# Altium integrated library Microchip PIC24H.IntLib: 321 symbols (part 5 of 18)
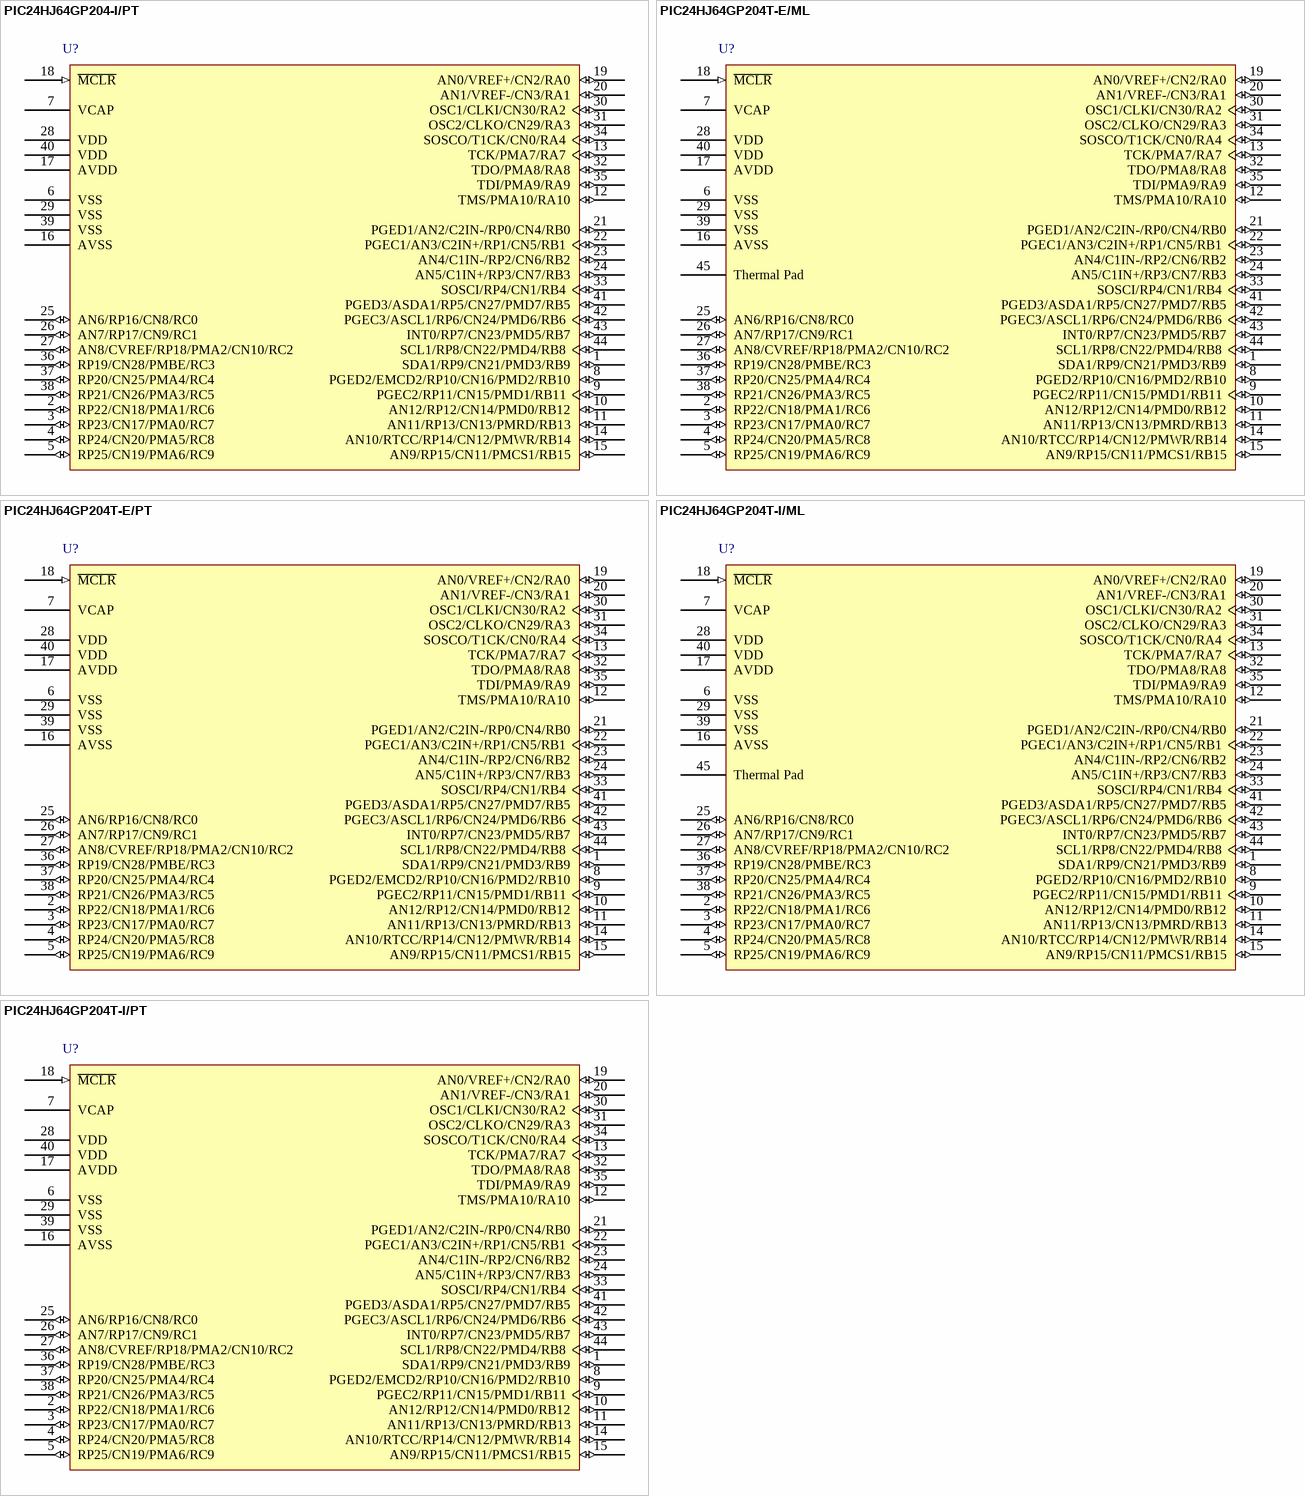
[diagram p75: symbols PIC24HJ64GP204-I/PT to PIC24HJ64GP204T-I/PT]

## PIC24HJ64GP204T-E/ML
designator U?
High Speed General Purpose 16-Bit Flash Microcontroller, 64KB Flash, 8KB RAM, 44-Pin QFN, Extended Temperature, Tape and Reel; Manufacturer: Microchip; PartNumber: PIC24HJ64GP204T-E/ML; DatasheetVersion: revF, Aug-2011; PackageVersion: revBB, Aug-2009; PackageReference: QFN-ML44; PackageDescription: 44-Lead Plastic Quad Flat, No Lead Package (ML) - 8x8 mm Body [QFN]; Mounting Technology: Surface Mount; Code_JEDEC: MO-220; Code_IPC: QFN65P800X800-44V2; ComponentLink1Description: Manufacturer URL; ComponentLink1URL: http://www.microchip.com/; ComponentLink2Description: Datasheet; ComponentLink2URL: http://ww1.microchip.com/downloads/en/DeviceDoc/70293D.pdf; ComponentLink3Description: Package Specification; ComponentLink3URL: http://www.microchip.com/stellent/groups/techpub_sg/documents/packagingspec/en012702.pdf
footprint QFN-ML44_N (QFN, 44-Leads, Body 8x8mm, Pitch 0.65mm, Thermal Pad 6.8x6.8mm, IPC Medium Density)
footprint QFN-ML44_L (QFN, 44-Leads, Body 8x8mm, Pitch 0.65mm, Thermal Pad 6.8x6.8mm, IPC High Density)
footprint QFN-ML44_M (QFN, 44-Leads, Body 8x8mm, Pitch 0.65mm, Thermal Pad 6.8x6.8mm, IPC Low Density)
pins: 1 SDA1/RP9/CN21/PMD3/RB9 (io), 2 RP22/CN18/PMA1/RC6 (io), 3 RP23/CN17/PMA0/RC7 (io), 4 RP24/CN20/PMA5/RC8 (io), 5 RP25/CN19/PMA6/RC9 (io), 6 VSS (power), 7 VCAP (power), 8 PGED2/RP10/CN16/PMD2/RB10 (io), 9 PGEC2/RP11/CN15/PMD1/RB11 (io), 10 AN12/RP12/CN14/PMD0/RB12 (io), 11 AN11/RP13/CN13/PMRD/RB13 (io), 12 TMS/PMA10/RA10 (io), 13 TCK/PMA7/RA7 (io), 14 AN10/RTCC/RP14/CN12/PMWR/RB14 (io), 15 AN9/RP15/CN11/PMCS1/RB15 (io), 16 AVSS (power), 17 AVDD (power), 18 ~{MCLR} (in), 19 AN0/VREF+/CN2/RA0 (io), 20 AN1/VREF-/CN3/RA1 (io), 21 PGED1/AN2/C2IN-/RP0/CN4/RB0 (io), 22 PGEC1/AN3/C2IN+/RP1/CN5/RB1 (io), 23 AN4/C1IN-/RP2/CN6/RB2 (io), 24 AN5/C1IN+/RP3/CN7/RB3 (io), 25 AN6/RP16/CN8/RC0 (io), 26 AN7/RP17/CN9/RC1 (io), 27 AN8/CVREF/RP18/PMA2/CN10/RC2 (io), 28 VDD (power), 29 VSS (power), 30 OSC1/CLKI/CN30/RA2 (io), 31 OSC2/CLKO/CN29/RA3 (io), 32 TDO/PMA8/RA8 (io), 33 SOSCI/RP4/CN1/RB4 (io), 34 SOSCO/T1CK/CN0/RA4 (io), 35 TDI/PMA9/RA9 (io), 36 RP19/CN28/PMBE/RC3 (io), 37 RP20/CN25/PMA4/RC4 (io), 38 RP21/CN26/PMA3/RC5 (io), 39 VSS (power), 40 VDD (power), 41 PGED3/ASDA1/RP5/CN27/PMD7/RB5 (io), 42 PGEC3/ASCL1/RP6/CN24/PMD6/RB6 (io), 43 INT0/RP7/CN23/PMD5/RB7 (io), 44 SCL1/RP8/CN22/PMD4/RB8 (io), 45 Thermal Pad

## PIC24HJ64GP204T-E/PT
designator U?
High Speed General Purpose 16-Bit Flash Microcontroller, 64KB Flash, 8KB RAM, 44-Pin TQFP, Extended Temperature, Tape and Reel; Manufacturer: Microchip; PartNumber: PIC24HJ64GP204T-E/PT; DatasheetVersion: revF, Aug-2011; PackageVersion: revBB, Aug-2009; PackageReference: TQFP-PT44; PackageDescription: 44-Lead Plastic Thin Quad Flatpack (PT) - 10x10x1mm Body, 2.00mm [TQFP]; Mounting Technology: Surface Mount; Code_JEDEC: MS-026; ComponentLink1Description: Manufacturer URL; ComponentLink1URL: http://www.microchip.com/; ComponentLink2Description: Datasheet; ComponentLink2URL: http://ww1.microchip.com/downloads/en/DeviceDoc/70293D.pdf; ComponentLink3Description: Package Specification; ComponentLink3URL: http://www.microchip.com/stellent/groups/techpub_sg/documents/packagingspec/en012702.pdf
footprint TQFP-PT44_N (Thin QFP, 44-Leads, Body 10x10mm, Pitch 0.8mm, IPC Medium Density)
footprint TQFP-PT44_L (Thin QFP, 44-Leads, Body 10x10mm, Pitch 0.8mm, IPC High Density)
footprint TQFP-PT44_M (Thin QFP, 44-Leads, Body 10x10mm, Pitch 0.8mm, IPC Low Density)
pins: 1 SDA1/RP9/CN21/PMD3/RB9 (io), 2 RP22/CN18/PMA1/RC6 (io), 3 RP23/CN17/PMA0/RC7 (io), 4 RP24/CN20/PMA5/RC8 (io), 5 RP25/CN19/PMA6/RC9 (io), 6 VSS (power), 7 VCAP (power), 8 PGED2/EMCD2/RP10/CN16/PMD2/RB10 (io), 9 PGEC2/RP11/CN15/PMD1/RB11 (io), 10 AN12/RP12/CN14/PMD0/RB12 (io), 11 AN11/RP13/CN13/PMRD/RB13 (io), 12 TMS/PMA10/RA10 (io), 13 TCK/PMA7/RA7 (io), 14 AN10/RTCC/RP14/CN12/PMWR/RB14 (io), 15 AN9/RP15/CN11/PMCS1/RB15 (io), 16 AVSS (power), 17 AVDD (power), 18 ~{MCLR} (in), 19 AN0/VREF+/CN2/RA0 (io), 20 AN1/VREF-/CN3/RA1 (io), 21 PGED1/AN2/C2IN-/RP0/CN4/RB0 (io), 22 PGEC1/AN3/C2IN+/RP1/CN5/RB1 (io), 23 AN4/C1IN-/RP2/CN6/RB2 (io), 24 AN5/C1IN+/RP3/CN7/RB3 (io), 25 AN6/RP16/CN8/RC0 (io), 26 AN7/RP17/CN9/RC1 (io), 27 AN8/CVREF/RP18/PMA2/CN10/RC2 (io), 28 VDD (power), 29 VSS (power), 30 OSC1/CLKI/CN30/RA2 (io), 31 OSC2/CLKO/CN29/RA3 (io), 32 TDO/PMA8/RA8 (io), 33 SOSCI/RP4/CN1/RB4 (io), 34 SOSCO/T1CK/CN0/RA4 (io), 35 TDI/PMA9/RA9 (io), 36 RP19/CN28/PMBE/RC3 (io), 37 RP20/CN25/PMA4/RC4 (io), 38 RP21/CN26/PMA3/RC5 (io), 39 VSS (power), 40 VDD (power), 41 PGED3/ASDA1/RP5/CN27/PMD7/RB5 (io), 42 PGEC3/ASCL1/RP6/CN24/PMD6/RB6 (io), 43 INT0/RP7/CN23/PMD5/RB7 (io), 44 SCL1/RP8/CN22/PMD4/RB8 (io)

## PIC24HJ64GP204T-I/ML
designator U?
High Speed General Purpose 16-Bit Flash Microcontroller, 64KB Flash, 8KB RAM, 44-Pin QFN, Industrial Temperature, Tape and Reel; Manufacturer: Microchip; PartNumber: PIC24HJ64GP204T-I/ML; DatasheetVersion: revF, Aug-2011; PackageVersion: revBB, Aug-2009; PackageReference: QFN-ML44; PackageDescription: 44-Lead Plastic Quad Flat, No Lead Package (ML) - 8x8 mm Body [QFN]; Supplier 1: Digi-Key; Supplier Part Number 1: PIC24HJ64GP204T-I/MLTR-ND; Supplier 2: Mouser; Supplier Part Number 2: 579-PIC2464GP204TIML; Mounting Technology: Surface Mount; Code_JEDEC: MO-220; Code_IPC: QFN65P800X800-44V2; ComponentLink1Description: Manufacturer URL; ComponentLink1URL: http://www.microchip.com/; ComponentLink2Description: Datasheet; ComponentLink2URL: http://ww1.microchip.com/downloads/en/DeviceDoc/70293D.pdf; ComponentLink3Description: Package Specification; ComponentLink3URL: http://www.microchip.com/stellent/groups/techpub_sg/documents/packagingspec/en012702.pdf
footprint QFN-ML44_N (QFN, 44-Leads, Body 8x8mm, Pitch 0.65mm, Thermal Pad 6.8x6.8mm, IPC Medium Density)
footprint QFN-ML44_L (QFN, 44-Leads, Body 8x8mm, Pitch 0.65mm, Thermal Pad 6.8x6.8mm, IPC High Density)
footprint QFN-ML44_M (QFN, 44-Leads, Body 8x8mm, Pitch 0.65mm, Thermal Pad 6.8x6.8mm, IPC Low Density)
pins: 1 SDA1/RP9/CN21/PMD3/RB9 (io), 2 RP22/CN18/PMA1/RC6 (io), 3 RP23/CN17/PMA0/RC7 (io), 4 RP24/CN20/PMA5/RC8 (io), 5 RP25/CN19/PMA6/RC9 (io), 6 VSS (power), 7 VCAP (power), 8 PGED2/RP10/CN16/PMD2/RB10 (io), 9 PGEC2/RP11/CN15/PMD1/RB11 (io), 10 AN12/RP12/CN14/PMD0/RB12 (io), 11 AN11/RP13/CN13/PMRD/RB13 (io), 12 TMS/PMA10/RA10 (io), 13 TCK/PMA7/RA7 (io), 14 AN10/RTCC/RP14/CN12/PMWR/RB14 (io), 15 AN9/RP15/CN11/PMCS1/RB15 (io), 16 AVSS (power), 17 AVDD (power), 18 ~{MCLR} (in), 19 AN0/VREF+/CN2/RA0 (io), 20 AN1/VREF-/CN3/RA1 (io), 21 PGED1/AN2/C2IN-/RP0/CN4/RB0 (io), 22 PGEC1/AN3/C2IN+/RP1/CN5/RB1 (io), 23 AN4/C1IN-/RP2/CN6/RB2 (io), 24 AN5/C1IN+/RP3/CN7/RB3 (io), 25 AN6/RP16/CN8/RC0 (io), 26 AN7/RP17/CN9/RC1 (io), 27 AN8/CVREF/RP18/PMA2/CN10/RC2 (io), 28 VDD (power), 29 VSS (power), 30 OSC1/CLKI/CN30/RA2 (io), 31 OSC2/CLKO/CN29/RA3 (io), 32 TDO/PMA8/RA8 (io), 33 SOSCI/RP4/CN1/RB4 (io), 34 SOSCO/T1CK/CN0/RA4 (io), 35 TDI/PMA9/RA9 (io), 36 RP19/CN28/PMBE/RC3 (io), 37 RP20/CN25/PMA4/RC4 (io), 38 RP21/CN26/PMA3/RC5 (io), 39 VSS (power), 40 VDD (power), 41 PGED3/ASDA1/RP5/CN27/PMD7/RB5 (io), 42 PGEC3/ASCL1/RP6/CN24/PMD6/RB6 (io), 43 INT0/RP7/CN23/PMD5/RB7 (io), 44 SCL1/RP8/CN22/PMD4/RB8 (io), 45 Thermal Pad

## PIC24HJ64GP204T-I/PT
designator U?
High Speed General Purpose 16-Bit Flash Microcontroller, 64KB Flash, 8KB RAM, 44-Pin TQFP, Industrial Temperature, Tape and Reel; Manufacturer: Microchip; PartNumber: PIC24HJ64GP204T-I/PT; DatasheetVersion: revF, Aug-2011; PackageVersion: revBB, Aug-2009; PackageReference: TQFP-PT44; PackageDescription: 44-Lead Plastic Thin Quad Flatpack (PT) - 10x10x1mm Body, 2.00mm [TQFP]; Supplier 1: Digi-Key; Supplier Part Number 1: PIC24HJ64GP204T-I/PTTR-ND; Supplier 2: Mouser; Supplier Part Number 2: 579-PIC2464GP204TIPT; Mounting Technology: Surface Mount; Code_JEDEC: MS-026; ComponentLink1Description: Manufacturer URL; ComponentLink1URL: http://www.microchip.com/; ComponentLink2Description: Datasheet; ComponentLink2URL: http://ww1.microchip.com/downloads/en/DeviceDoc/70293D.pdf; ComponentLink3Description: Package Specification; ComponentLink3URL: http://www.microchip.com/stellent/groups/techpub_sg/documents/packagingspec/en012702.pdf
footprint TQFP-PT44_N (Thin QFP, 44-Leads, Body 10x10mm, Pitch 0.8mm, IPC Medium Density)
footprint TQFP-PT44_L (Thin QFP, 44-Leads, Body 10x10mm, Pitch 0.8mm, IPC High Density)
footprint TQFP-PT44_M (Thin QFP, 44-Leads, Body 10x10mm, Pitch 0.8mm, IPC Low Density)
pins: 1 SDA1/RP9/CN21/PMD3/RB9 (io), 2 RP22/CN18/PMA1/RC6 (io), 3 RP23/CN17/PMA0/RC7 (io), 4 RP24/CN20/PMA5/RC8 (io), 5 RP25/CN19/PMA6/RC9 (io), 6 VSS (power), 7 VCAP (power), 8 PGED2/EMCD2/RP10/CN16/PMD2/RB10 (io), 9 PGEC2/RP11/CN15/PMD1/RB11 (io), 10 AN12/RP12/CN14/PMD0/RB12 (io), 11 AN11/RP13/CN13/PMRD/RB13 (io), 12 TMS/PMA10/RA10 (io), 13 TCK/PMA7/RA7 (io), 14 AN10/RTCC/RP14/CN12/PMWR/RB14 (io), 15 AN9/RP15/CN11/PMCS1/RB15 (io), 16 AVSS (power), 17 AVDD (power), 18 ~{MCLR} (in), 19 AN0/VREF+/CN2/RA0 (io), 20 AN1/VREF-/CN3/RA1 (io), 21 PGED1/AN2/C2IN-/RP0/CN4/RB0 (io), 22 PGEC1/AN3/C2IN+/RP1/CN5/RB1 (io), 23 AN4/C1IN-/RP2/CN6/RB2 (io), 24 AN5/C1IN+/RP3/CN7/RB3 (io), 25 AN6/RP16/CN8/RC0 (io), 26 AN7/RP17/CN9/RC1 (io), 27 AN8/CVREF/RP18/PMA2/CN10/RC2 (io), 28 VDD (power), 29 VSS (power), 30 OSC1/CLKI/CN30/RA2 (io), 31 OSC2/CLKO/CN29/RA3 (io), 32 TDO/PMA8/RA8 (io), 33 SOSCI/RP4/CN1/RB4 (io), 34 SOSCO/T1CK/CN0/RA4 (io), 35 TDI/PMA9/RA9 (io), 36 RP19/CN28/PMBE/RC3 (io), 37 RP20/CN25/PMA4/RC4 (io), 38 RP21/CN26/PMA3/RC5 (io), 39 VSS (power), 40 VDD (power), 41 PGED3/ASDA1/RP5/CN27/PMD7/RB5 (io), 42 PGEC3/ASCL1/RP6/CN24/PMD6/RB6 (io), 43 INT0/RP7/CN23/PMD5/RB7 (io), 44 SCL1/RP8/CN22/PMD4/RB8 (io)

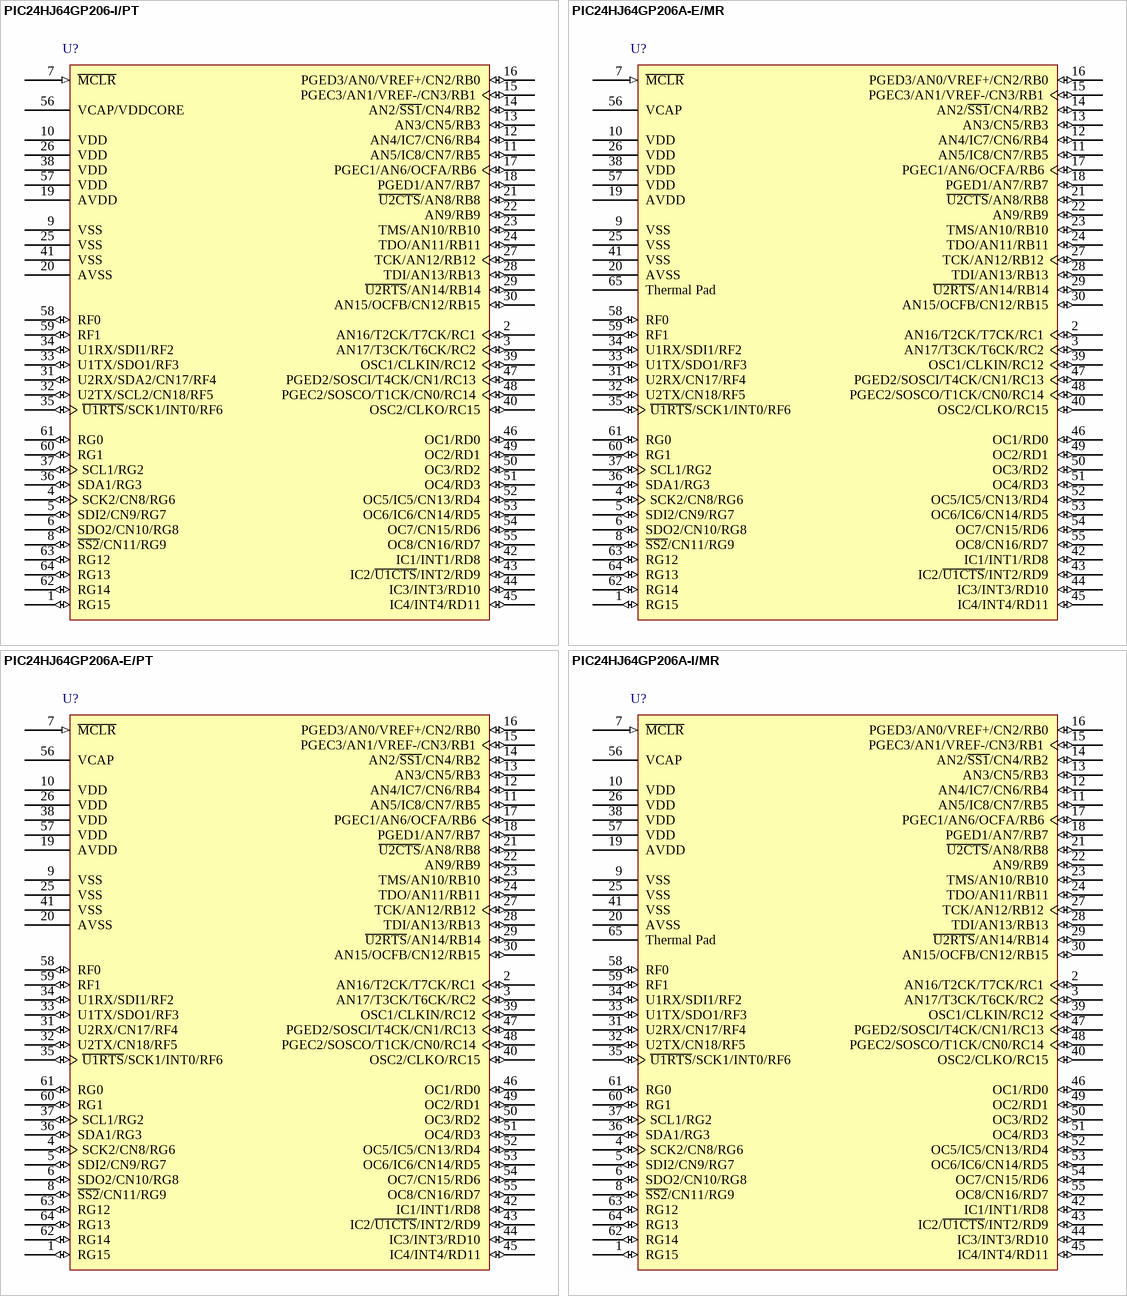
[diagram p13: symbols PIC24HJ64GP206-I/PT to PIC24HJ64GP206A-I/MR]

## PIC24HJ64GP206-I/PT
designator U?
High Speed General Purpose 16-Bit Flash Microcontroller, 64KB Flash, 8KB RAM, 64-Pin TQFP, Industrial Temperature; Manufacturer: Microchip; PartNumber: PIC24HJ64GP206-I/PT; DatasheetVersion: revH, Mar-2009; PackageVersion: revBB, Aug-2009; PackageReference: TQFP-PT64; PackageDescription: 64-Lead Thin Plastic Quad Flat Pack (PT) - 10x10x1mm Body, 2.00mm [TQFP]; Supplier 1: Digi-Key; Supplier Part Number 1: PIC24HJ64GP206-I/PT-ND; Supplier 2: Farnell; Supplier Part Number 2: 1146548MPKG; Supplier 3: Farnell; Supplier Part Number 3: 1146548; Supplier 4: Newark; Supplier Part Number 4: 56K7368; Supplier 5: Mouser; Supplier Part Number 5: 579-24HJ64GP206IPT; Mounting Technology: Surface Mount; Code_JEDEC: MS-026; ComponentLink1Description: Manufacturer URL; ComponentLink1URL: http://www.microchip.com/; ComponentLink2Description: Datasheet; ComponentLink2URL: http://ww1.microchip.com/downloads/en/DeviceDoc/70175H.pdf; ComponentLink3Description: Package Specification; ComponentLink3URL: http://www.microchip.com/stellent/groups/techpub_sg/documents/packagingspec/en012702.pdf
footprint TQFP-PT64_N (Thin QFP, 64-Leads, Body 10x10mm, Pitch 0.5mm, IPC Medium Density)
footprint TQFP-PT64_L (Thin QFP, 64-Leads, Body 10x10mm, Pitch 0.5mm, IPC High Density)
footprint TQFP-PT64_M (Thin QFP, 64-Leads, Body 10x10mm, Pitch 0.5mm, IPC Low Density)
pins: 1 RG15 (io), 2 AN16/T2CK/T7CK/RC1 (io), 3 AN17/T3CK/T6CK/RC2 (io), 4 SCK2/CN8/RG6 (io), 5 SDI2/CN9/RG7 (io), 6 SDO2/CN10/RG8 (io), 7 ~{MCLR} (in), 8 ~{SS2}/CN11/RG9 (io), 9 VSS (power), 10 VDD (power), 11 AN5/IC8/CN7/RB5 (io), 12 AN4/IC7/CN6/RB4 (io), 13 AN3/CN5/RB3 (io), 14 AN2/~{SS1}/CN4/RB2 (io), 15 PGEC3/AN1/VREF-/CN3/RB1 (io), 16 PGED3/AN0/VREF+/CN2/RB0 (io), 17 PGEC1/AN6/OCFA/RB6 (io), 18 PGED1/AN7/RB7 (io), 19 AVDD (power), 20 AVSS (power), 21 ~{U2CTS}/AN8/RB8 (io), 22 AN9/RB9 (io), 23 TMS/AN10/RB10 (io), 24 TDO/AN11/RB11 (io), 25 VSS (power), 26 VDD (power), 27 TCK/AN12/RB12 (io), 28 TDI/AN13/RB13 (io), 29 ~{U2RTS}/AN14/RB14 (io), 30 AN15/OCFB/CN12/RB15 (io), 31 U2RX/SDA2/CN17/RF4 (io), 32 U2TX/SCL2/CN18/RF5 (io), 33 U1TX/SDO1/RF3 (io), 34 U1RX/SDI1/RF2 (io), 35 ~{U1RTS}/SCK1/INT0/RF6 (io), 36 SDA1/RG3 (io), 37 SCL1/RG2 (io), 38 VDD (power), 39 OSC1/CLKIN/RC12 (io), 40 OSC2/CLKO/RC15 (io), 41 VSS (power), 42 IC1/INT1/RD8 (io), 43 IC2/~{U1CTS}/INT2/RD9 (io), 44 IC3/INT3/RD10 (io), 45 IC4/INT4/RD11 (io), 46 OC1/RD0 (io), 47 PGED2/SOSCI/T4CK/CN1/RC13 (io), 48 PGEC2/SOSCO/T1CK/CN0/RC14 (io), 49 OC2/RD1 (io), 50 OC3/RD2 (io), 51 OC4/RD3 (io), 52 OC5/IC5/CN13/RD4 (io), 53 OC6/IC6/CN14/RD5 (io), 54 OC7/CN15/RD6 (io), 55 OC8/CN16/RD7 (io), 56 VCAP/VDDCORE (power), 57 VDD (power), 58 RF0 (io), 59 RF1 (io), 60 RG1 (io), 61 RG0 (io), 62 RG14 (io), 63 RG12 (io), 64 RG13 (io)

## PIC24HJ64GP206A-E/MR
designator U?
High Speed General Purpose 16-Bit Flash Microcontroller, 64KB Flash, 8KB RAM, 64-Pin QFN, Extended Temperature; Manufacturer: Microchip; PartNumber: PIC24HJ64GP206A-E/MR; DatasheetVersion: rev C, Mar-2011; PackageVersion: revBB, Aug-2009; PackageReference: QFN-MR64; PackageDescription: 64-Lead Plastic Quad Flat, No Lead Package (MR) - 9x9x0.9 mm Body [QFN]; Supplier 1: Digi-Key; Supplier Part Number 1: PIC24HJ64GP206A-E/MR-ND; Supplier 2: Mouser; Supplier Part Number 2: 579-PIC24HJ64GP2E/MR; Mounting Technology: Surface Mount; ComponentLink1Description: Manufacturer URL; ComponentLink1URL: http://www.microchip.com/; ComponentLink2Description: Datasheet; ComponentLink2URL: http://ww1.microchip.com/downloads/en/DeviceDoc/70592B.pdf; ComponentLink3Description: Package Specification; ComponentLink3URL: http://www.microchip.com/stellent/groups/techpub_sg/documents/packagingspec/en012702.pdf
footprint QFN-MR64_N (QFN, 64-Leads, Body 9x9mm, Pitch 0.5mm, Thermal Pad 7.5x7.5mm, IPC Medium Density)
footprint QFN-MR64_L (QFN, 64-Leads, Body 9x9mm, Pitch 0.5mm, Thermal Pad 7.5x7.5mm, IPC High Density)
footprint QFN-MR64_M (QFN, 64-Leads, Body 9x9mm, Pitch 0.5mm, Thermal Pad 7.5x7.5mm, IPC Low Density)
pins: 1 RG15 (io), 2 AN16/T2CK/T7CK/RC1 (io), 3 AN17/T3CK/T6CK/RC2 (io), 4 SCK2/CN8/RG6 (io), 5 SDI2/CN9/RG7 (io), 6 SDO2/CN10/RG8 (io), 7 ~{MCLR} (in), 8 ~{SS2}/CN11/RG9 (io), 9 VSS (power), 10 VDD (power), 11 AN5/IC8/CN7/RB5 (io), 12 AN4/IC7/CN6/RB4 (io), 13 AN3/CN5/RB3 (io), 14 AN2/~{SS1}/CN4/RB2 (io), 15 PGEC3/AN1/VREF-/CN3/RB1 (io), 16 PGED3/AN0/VREF+/CN2/RB0 (io), 17 PGEC1/AN6/OCFA/RB6 (io), 18 PGED1/AN7/RB7 (io), 19 AVDD (power), 20 AVSS (power), 21 ~{U2CTS}/AN8/RB8 (io), 22 AN9/RB9 (io), 23 TMS/AN10/RB10 (io), 24 TDO/AN11/RB11 (io), 25 VSS (power), 26 VDD (power), 27 TCK/AN12/RB12 (io), 28 TDI/AN13/RB13 (io), 29 ~{U2RTS}/AN14/RB14 (io), 30 AN15/OCFB/CN12/RB15 (io), 31 U2RX/CN17/RF4 (io), 32 U2TX/CN18/RF5 (io), 33 U1TX/SDO1/RF3 (io), 34 U1RX/SDI1/RF2 (io), 35 ~{U1RTS}/SCK1/INT0/RF6 (io), 36 SDA1/RG3 (io), 37 SCL1/RG2 (io), 38 VDD (power), 39 OSC1/CLKIN/RC12 (io), 40 OSC2/CLKO/RC15 (io), 41 VSS (power), 42 IC1/INT1/RD8 (io), 43 IC2/~{U1CTS}/INT2/RD9 (io), 44 IC3/INT3/RD10 (io), 45 IC4/INT4/RD11 (io), 46 OC1/RD0 (io), 47 PGED2/SOSCI/T4CK/CN1/RC13 (io), 48 PGEC2/SOSCO/T1CK/CN0/RC14 (io), 49 OC2/RD1 (io), 50 OC3/RD2 (io), 51 OC4/RD3 (io), 52 OC5/IC5/CN13/RD4 (io), 53 OC6/IC6/CN14/RD5 (io), 54 OC7/CN15/RD6 (io), 55 OC8/CN16/RD7 (io), 56 VCAP (power), 57 VDD (power), 58 RF0 (io), 59 RF1 (io), 60 RG1 (io), 61 RG0 (io), 62 RG14 (io), 63 RG12 (io), 64 RG13 (io), 65 Thermal Pad

## PIC24HJ64GP206A-E/PT
designator U?
High Speed General Purpose 16-Bit Flash Microcontroller, 64KB Flash, 8KB RAM, 64-Pin TQFP, Extended Temperature; Manufacturer: Microchip; PartNumber: PIC24HJ64GP206A-E/PT; DatasheetVersion: rev C, Mar-2011; PackageVersion: revBB, Aug-2009; PackageReference: TQFP-PT64; PackageDescription: 64-Lead Thin Plastic Quad Flat Pack (PT) - 10x10x1mm Body, 2.00mm [TQFP]; Supplier 1: Digi-Key; Supplier Part Number 1: PIC24HJ64GP206A-E/PT-ND; Supplier 2: Mouser; Supplier Part Number 2: 579-HJ64GP206A-E/PT; Mounting Technology: Surface Mount; Code_JEDEC: MS-026; ComponentLink1Description: Manufacturer URL; ComponentLink1URL: http://www.microchip.com/; ComponentLink2Description: Datasheet; ComponentLink2URL: http://ww1.microchip.com/downloads/en/DeviceDoc/70592B.pdf; ComponentLink3Description: Package Specification; ComponentLink3URL: http://www.microchip.com/stellent/groups/techpub_sg/documents/packagingspec/en012702.pdf
footprint TQFP-PT64_N (Thin QFP, 64-Leads, Body 10x10mm, Pitch 0.5mm, IPC Medium Density)
footprint TQFP-PT64_L (Thin QFP, 64-Leads, Body 10x10mm, Pitch 0.5mm, IPC High Density)
footprint TQFP-PT64_M (Thin QFP, 64-Leads, Body 10x10mm, Pitch 0.5mm, IPC Low Density)
pins: 1 RG15 (io), 2 AN16/T2CK/T7CK/RC1 (io), 3 AN17/T3CK/T6CK/RC2 (io), 4 SCK2/CN8/RG6 (io), 5 SDI2/CN9/RG7 (io), 6 SDO2/CN10/RG8 (io), 7 ~{MCLR} (in), 8 ~{SS2}/CN11/RG9 (io), 9 VSS (power), 10 VDD (power), 11 AN5/IC8/CN7/RB5 (io), 12 AN4/IC7/CN6/RB4 (io), 13 AN3/CN5/RB3 (io), 14 AN2/~{SS1}/CN4/RB2 (io), 15 PGEC3/AN1/VREF-/CN3/RB1 (io), 16 PGED3/AN0/VREF+/CN2/RB0 (io), 17 PGEC1/AN6/OCFA/RB6 (io), 18 PGED1/AN7/RB7 (io), 19 AVDD (power), 20 AVSS (power), 21 ~{U2CTS}/AN8/RB8 (io), 22 AN9/RB9 (io), 23 TMS/AN10/RB10 (io), 24 TDO/AN11/RB11 (io), 25 VSS (power), 26 VDD (power), 27 TCK/AN12/RB12 (io), 28 TDI/AN13/RB13 (io), 29 ~{U2RTS}/AN14/RB14 (io), 30 AN15/OCFB/CN12/RB15 (io), 31 U2RX/CN17/RF4 (io), 32 U2TX/CN18/RF5 (io), 33 U1TX/SDO1/RF3 (io), 34 U1RX/SDI1/RF2 (io), 35 ~{U1RTS}/SCK1/INT0/RF6 (io), 36 SDA1/RG3 (io), 37 SCL1/RG2 (io), 38 VDD (power), 39 OSC1/CLKIN/RC12 (io), 40 OSC2/CLKO/RC15 (io), 41 VSS (power), 42 IC1/INT1/RD8 (io), 43 IC2/~{U1CTS}/INT2/RD9 (io), 44 IC3/INT3/RD10 (io), 45 IC4/INT4/RD11 (io), 46 OC1/RD0 (io), 47 PGED2/SOSCI/T4CK/CN1/RC13 (io), 48 PGEC2/SOSCO/T1CK/CN0/RC14 (io), 49 OC2/RD1 (io), 50 OC3/RD2 (io), 51 OC4/RD3 (io), 52 OC5/IC5/CN13/RD4 (io), 53 OC6/IC6/CN14/RD5 (io), 54 OC7/CN15/RD6 (io), 55 OC8/CN16/RD7 (io), 56 VCAP (power), 57 VDD (power), 58 RF0 (io), 59 RF1 (io), 60 RG1 (io), 61 RG0 (io), 62 RG14 (io), 63 RG12 (io), 64 RG13 (io)

## PIC24HJ64GP206A-I/MR
designator U?
High Speed General Purpose 16-Bit Flash Microcontroller, 64KB Flash, 8KB RAM, 64-Pin QFN, Industrial Temperature; Manufacturer: Microchip; PartNumber: PIC24HJ64GP206A-I/MR; DatasheetVersion: rev C, Mar-2011; PackageVersion: revBB, Aug-2009; PackageReference: QFN-MR64; PackageDescription: 64-Lead Plastic Quad Flat, No Lead Package (MR) - 9x9x0.9 mm Body [QFN]; Supplier 1: Digi-Key; Supplier Part Number 1: PIC24HJ64GP206A-I/MR-ND; Supplier 2: Mouser; Supplier Part Number 2: 579-PIC24HJ64GP2I/MR; Mounting Technology: Surface Mount; ComponentLink1Description: Manufacturer URL; ComponentLink1URL: http://www.microchip.com/; ComponentLink2Description: Datasheet; ComponentLink2URL: http://ww1.microchip.com/downloads/en/DeviceDoc/70592B.pdf; ComponentLink3Description: Package Specification; ComponentLink3URL: http://www.microchip.com/stellent/groups/techpub_sg/documents/packagingspec/en012702.pdf
footprint QFN-MR64_N (QFN, 64-Leads, Body 9x9mm, Pitch 0.5mm, Thermal Pad 7.5x7.5mm, IPC Medium Density)
footprint QFN-MR64_L (QFN, 64-Leads, Body 9x9mm, Pitch 0.5mm, Thermal Pad 7.5x7.5mm, IPC High Density)
footprint QFN-MR64_M (QFN, 64-Leads, Body 9x9mm, Pitch 0.5mm, Thermal Pad 7.5x7.5mm, IPC Low Density)
pins: 1 RG15 (io), 2 AN16/T2CK/T7CK/RC1 (io), 3 AN17/T3CK/T6CK/RC2 (io), 4 SCK2/CN8/RG6 (io), 5 SDI2/CN9/RG7 (io), 6 SDO2/CN10/RG8 (io), 7 ~{MCLR} (in), 8 ~{SS2}/CN11/RG9 (io), 9 VSS (power), 10 VDD (power), 11 AN5/IC8/CN7/RB5 (io), 12 AN4/IC7/CN6/RB4 (io), 13 AN3/CN5/RB3 (io), 14 AN2/~{SS1}/CN4/RB2 (io), 15 PGEC3/AN1/VREF-/CN3/RB1 (io), 16 PGED3/AN0/VREF+/CN2/RB0 (io), 17 PGEC1/AN6/OCFA/RB6 (io), 18 PGED1/AN7/RB7 (io), 19 AVDD (power), 20 AVSS (power), 21 ~{U2CTS}/AN8/RB8 (io), 22 AN9/RB9 (io), 23 TMS/AN10/RB10 (io), 24 TDO/AN11/RB11 (io), 25 VSS (power), 26 VDD (power), 27 TCK/AN12/RB12 (io), 28 TDI/AN13/RB13 (io), 29 ~{U2RTS}/AN14/RB14 (io), 30 AN15/OCFB/CN12/RB15 (io), 31 U2RX/CN17/RF4 (io), 32 U2TX/CN18/RF5 (io), 33 U1TX/SDO1/RF3 (io), 34 U1RX/SDI1/RF2 (io), 35 ~{U1RTS}/SCK1/INT0/RF6 (io), 36 SDA1/RG3 (io), 37 SCL1/RG2 (io), 38 VDD (power), 39 OSC1/CLKIN/RC12 (io), 40 OSC2/CLKO/RC15 (io), 41 VSS (power), 42 IC1/INT1/RD8 (io), 43 IC2/~{U1CTS}/INT2/RD9 (io), 44 IC3/INT3/RD10 (io), 45 IC4/INT4/RD11 (io), 46 OC1/RD0 (io), 47 PGED2/SOSCI/T4CK/CN1/RC13 (io), 48 PGEC2/SOSCO/T1CK/CN0/RC14 (io), 49 OC2/RD1 (io), 50 OC3/RD2 (io), 51 OC4/RD3 (io), 52 OC5/IC5/CN13/RD4 (io), 53 OC6/IC6/CN14/RD5 (io), 54 OC7/CN15/RD6 (io), 55 OC8/CN16/RD7 (io), 56 VCAP (power), 57 VDD (power), 58 RF0 (io), 59 RF1 (io), 60 RG1 (io), 61 RG0 (io), 62 RG14 (io), 63 RG12 (io), 64 RG13 (io), 65 Thermal Pad

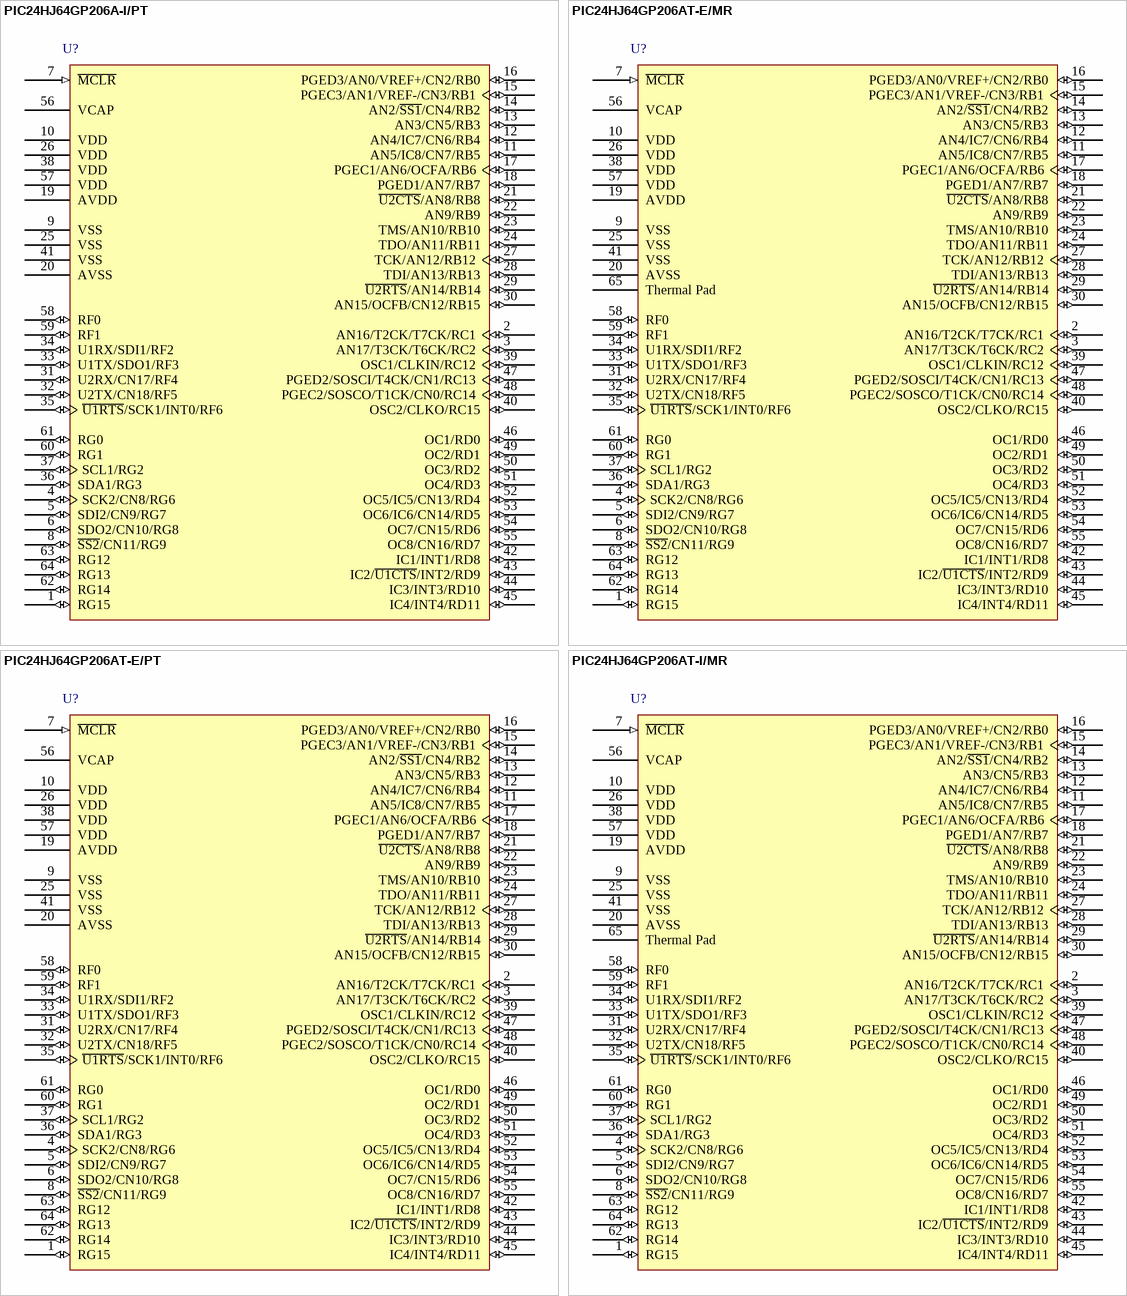
[diagram p14: symbols PIC24HJ64GP206A-I/PT to PIC24HJ64GP206AT-I/MR]

## PIC24HJ64GP206A-I/PT
designator U?
High Speed General Purpose 16-Bit Flash Microcontroller, 64KB Flash, 8KB RAM, 64-Pin TQFP, Industrial Temperature; Manufacturer: Microchip; PartNumber: PIC24HJ64GP206A-I/PT; DatasheetVersion: rev C, Mar-2011; PackageVersion: revBB, Aug-2009; PackageReference: TQFP-PT64; PackageDescription: 64-Lead Thin Plastic Quad Flat Pack (PT) - 10x10x1mm Body, 2.00mm [TQFP]; Supplier 1: Digi-Key; Supplier Part Number 1: PIC24HJ64GP206A-I/PT-ND; Supplier 2: Newark; Supplier Part Number 2: 45P4873; Supplier 3: Mouser; Supplier Part Number 3: 579-PIC24HJ64206AIPT; Mounting Technology: Surface Mount; Code_JEDEC: MS-026; ComponentLink1Description: Manufacturer URL; ComponentLink1URL: http://www.microchip.com/; ComponentLink2Description: Datasheet; ComponentLink2URL: http://ww1.microchip.com/downloads/en/DeviceDoc/70592B.pdf; ComponentLink3Description: Package Specification; ComponentLink3URL: http://www.microchip.com/stellent/groups/techpub_sg/documents/packagingspec/en012702.pdf
footprint TQFP-PT64_N (Thin QFP, 64-Leads, Body 10x10mm, Pitch 0.5mm, IPC Medium Density)
footprint TQFP-PT64_L (Thin QFP, 64-Leads, Body 10x10mm, Pitch 0.5mm, IPC High Density)
footprint TQFP-PT64_M (Thin QFP, 64-Leads, Body 10x10mm, Pitch 0.5mm, IPC Low Density)
pins: 1 RG15 (io), 2 AN16/T2CK/T7CK/RC1 (io), 3 AN17/T3CK/T6CK/RC2 (io), 4 SCK2/CN8/RG6 (io), 5 SDI2/CN9/RG7 (io), 6 SDO2/CN10/RG8 (io), 7 ~{MCLR} (in), 8 ~{SS2}/CN11/RG9 (io), 9 VSS (power), 10 VDD (power), 11 AN5/IC8/CN7/RB5 (io), 12 AN4/IC7/CN6/RB4 (io), 13 AN3/CN5/RB3 (io), 14 AN2/~{SS1}/CN4/RB2 (io), 15 PGEC3/AN1/VREF-/CN3/RB1 (io), 16 PGED3/AN0/VREF+/CN2/RB0 (io), 17 PGEC1/AN6/OCFA/RB6 (io), 18 PGED1/AN7/RB7 (io), 19 AVDD (power), 20 AVSS (power), 21 ~{U2CTS}/AN8/RB8 (io), 22 AN9/RB9 (io), 23 TMS/AN10/RB10 (io), 24 TDO/AN11/RB11 (io), 25 VSS (power), 26 VDD (power), 27 TCK/AN12/RB12 (io), 28 TDI/AN13/RB13 (io), 29 ~{U2RTS}/AN14/RB14 (io), 30 AN15/OCFB/CN12/RB15 (io), 31 U2RX/CN17/RF4 (io), 32 U2TX/CN18/RF5 (io), 33 U1TX/SDO1/RF3 (io), 34 U1RX/SDI1/RF2 (io), 35 ~{U1RTS}/SCK1/INT0/RF6 (io), 36 SDA1/RG3 (io), 37 SCL1/RG2 (io), 38 VDD (power), 39 OSC1/CLKIN/RC12 (io), 40 OSC2/CLKO/RC15 (io), 41 VSS (power), 42 IC1/INT1/RD8 (io), 43 IC2/~{U1CTS}/INT2/RD9 (io), 44 IC3/INT3/RD10 (io), 45 IC4/INT4/RD11 (io), 46 OC1/RD0 (io), 47 PGED2/SOSCI/T4CK/CN1/RC13 (io), 48 PGEC2/SOSCO/T1CK/CN0/RC14 (io), 49 OC2/RD1 (io), 50 OC3/RD2 (io), 51 OC4/RD3 (io), 52 OC5/IC5/CN13/RD4 (io), 53 OC6/IC6/CN14/RD5 (io), 54 OC7/CN15/RD6 (io), 55 OC8/CN16/RD7 (io), 56 VCAP (power), 57 VDD (power), 58 RF0 (io), 59 RF1 (io), 60 RG1 (io), 61 RG0 (io), 62 RG14 (io), 63 RG12 (io), 64 RG13 (io)

## PIC24HJ64GP206AT-E/MR
designator U?
High Speed General Purpose 16-Bit Flash Microcontroller, 64KB Flash, 8KB RAM, 64-Pin QFN, Extended Temperature, Tape and Reel; Manufacturer: Microchip; PartNumber: PIC24HJ64GP206AT-E/MR; DatasheetVersion: rev C, Mar-2011; PackageVersion: revBB, Aug-2009; PackageReference: QFN-MR64; PackageDescription: 64-Lead Plastic Quad Flat, No Lead Package (MR) - 9x9x0.9 mm Body [QFN]; Mounting Technology: Surface Mount; ComponentLink1Description: Manufacturer URL; ComponentLink1URL: http://www.microchip.com/; ComponentLink2Description: Datasheet; ComponentLink2URL: http://ww1.microchip.com/downloads/en/DeviceDoc/70592B.pdf; ComponentLink3Description: Package Specification; ComponentLink3URL: http://www.microchip.com/stellent/groups/techpub_sg/documents/packagingspec/en012702.pdf
footprint QFN-MR64_N (QFN, 64-Leads, Body 9x9mm, Pitch 0.5mm, Thermal Pad 7.5x7.5mm, IPC Medium Density)
footprint QFN-MR64_L (QFN, 64-Leads, Body 9x9mm, Pitch 0.5mm, Thermal Pad 7.5x7.5mm, IPC High Density)
footprint QFN-MR64_M (QFN, 64-Leads, Body 9x9mm, Pitch 0.5mm, Thermal Pad 7.5x7.5mm, IPC Low Density)
pins: 1 RG15 (io), 2 AN16/T2CK/T7CK/RC1 (io), 3 AN17/T3CK/T6CK/RC2 (io), 4 SCK2/CN8/RG6 (io), 5 SDI2/CN9/RG7 (io), 6 SDO2/CN10/RG8 (io), 7 ~{MCLR} (in), 8 ~{SS2}/CN11/RG9 (io), 9 VSS (power), 10 VDD (power), 11 AN5/IC8/CN7/RB5 (io), 12 AN4/IC7/CN6/RB4 (io), 13 AN3/CN5/RB3 (io), 14 AN2/~{SS1}/CN4/RB2 (io), 15 PGEC3/AN1/VREF-/CN3/RB1 (io), 16 PGED3/AN0/VREF+/CN2/RB0 (io), 17 PGEC1/AN6/OCFA/RB6 (io), 18 PGED1/AN7/RB7 (io), 19 AVDD (power), 20 AVSS (power), 21 ~{U2CTS}/AN8/RB8 (io), 22 AN9/RB9 (io), 23 TMS/AN10/RB10 (io), 24 TDO/AN11/RB11 (io), 25 VSS (power), 26 VDD (power), 27 TCK/AN12/RB12 (io), 28 TDI/AN13/RB13 (io), 29 ~{U2RTS}/AN14/RB14 (io), 30 AN15/OCFB/CN12/RB15 (io), 31 U2RX/CN17/RF4 (io), 32 U2TX/CN18/RF5 (io), 33 U1TX/SDO1/RF3 (io), 34 U1RX/SDI1/RF2 (io), 35 ~{U1RTS}/SCK1/INT0/RF6 (io), 36 SDA1/RG3 (io), 37 SCL1/RG2 (io), 38 VDD (power), 39 OSC1/CLKIN/RC12 (io), 40 OSC2/CLKO/RC15 (io), 41 VSS (power), 42 IC1/INT1/RD8 (io), 43 IC2/~{U1CTS}/INT2/RD9 (io), 44 IC3/INT3/RD10 (io), 45 IC4/INT4/RD11 (io), 46 OC1/RD0 (io), 47 PGED2/SOSCI/T4CK/CN1/RC13 (io), 48 PGEC2/SOSCO/T1CK/CN0/RC14 (io), 49 OC2/RD1 (io), 50 OC3/RD2 (io), 51 OC4/RD3 (io), 52 OC5/IC5/CN13/RD4 (io), 53 OC6/IC6/CN14/RD5 (io), 54 OC7/CN15/RD6 (io), 55 OC8/CN16/RD7 (io), 56 VCAP (power), 57 VDD (power), 58 RF0 (io), 59 RF1 (io), 60 RG1 (io), 61 RG0 (io), 62 RG14 (io), 63 RG12 (io), 64 RG13 (io), 65 Thermal Pad

## PIC24HJ64GP206AT-E/PT
designator U?
High Speed General Purpose 16-Bit Flash Microcontroller, 64KB Flash, 8KB RAM, 64-Pin TQFP, Extended Temperature, Tape and Reel; Manufacturer: Microchip; PartNumber: PIC24HJ64GP206AT-E/PT; DatasheetVersion: rev C, Mar-2011; PackageVersion: revBB, Aug-2009; PackageReference: TQFP-PT64; PackageDescription: 64-Lead Thin Plastic Quad Flat Pack (PT) - 10x10x1mm Body, 2.00mm [TQFP]; Mounting Technology: Surface Mount; Code_JEDEC: MS-026; ComponentLink1Description: Manufacturer URL; ComponentLink1URL: http://www.microchip.com/; ComponentLink2Description: Datasheet; ComponentLink2URL: http://ww1.microchip.com/downloads/en/DeviceDoc/70592B.pdf; ComponentLink3Description: Package Specification; ComponentLink3URL: http://www.microchip.com/stellent/groups/techpub_sg/documents/packagingspec/en012702.pdf
footprint TQFP-PT64_N (Thin QFP, 64-Leads, Body 10x10mm, Pitch 0.5mm, IPC Medium Density)
footprint TQFP-PT64_L (Thin QFP, 64-Leads, Body 10x10mm, Pitch 0.5mm, IPC High Density)
footprint TQFP-PT64_M (Thin QFP, 64-Leads, Body 10x10mm, Pitch 0.5mm, IPC Low Density)
pins: 1 RG15 (io), 2 AN16/T2CK/T7CK/RC1 (io), 3 AN17/T3CK/T6CK/RC2 (io), 4 SCK2/CN8/RG6 (io), 5 SDI2/CN9/RG7 (io), 6 SDO2/CN10/RG8 (io), 7 ~{MCLR} (in), 8 ~{SS2}/CN11/RG9 (io), 9 VSS (power), 10 VDD (power), 11 AN5/IC8/CN7/RB5 (io), 12 AN4/IC7/CN6/RB4 (io), 13 AN3/CN5/RB3 (io), 14 AN2/~{SS1}/CN4/RB2 (io), 15 PGEC3/AN1/VREF-/CN3/RB1 (io), 16 PGED3/AN0/VREF+/CN2/RB0 (io), 17 PGEC1/AN6/OCFA/RB6 (io), 18 PGED1/AN7/RB7 (io), 19 AVDD (power), 20 AVSS (power), 21 ~{U2CTS}/AN8/RB8 (io), 22 AN9/RB9 (io), 23 TMS/AN10/RB10 (io), 24 TDO/AN11/RB11 (io), 25 VSS (power), 26 VDD (power), 27 TCK/AN12/RB12 (io), 28 TDI/AN13/RB13 (io), 29 ~{U2RTS}/AN14/RB14 (io), 30 AN15/OCFB/CN12/RB15 (io), 31 U2RX/CN17/RF4 (io), 32 U2TX/CN18/RF5 (io), 33 U1TX/SDO1/RF3 (io), 34 U1RX/SDI1/RF2 (io), 35 ~{U1RTS}/SCK1/INT0/RF6 (io), 36 SDA1/RG3 (io), 37 SCL1/RG2 (io), 38 VDD (power), 39 OSC1/CLKIN/RC12 (io), 40 OSC2/CLKO/RC15 (io), 41 VSS (power), 42 IC1/INT1/RD8 (io), 43 IC2/~{U1CTS}/INT2/RD9 (io), 44 IC3/INT3/RD10 (io), 45 IC4/INT4/RD11 (io), 46 OC1/RD0 (io), 47 PGED2/SOSCI/T4CK/CN1/RC13 (io), 48 PGEC2/SOSCO/T1CK/CN0/RC14 (io), 49 OC2/RD1 (io), 50 OC3/RD2 (io), 51 OC4/RD3 (io), 52 OC5/IC5/CN13/RD4 (io), 53 OC6/IC6/CN14/RD5 (io), 54 OC7/CN15/RD6 (io), 55 OC8/CN16/RD7 (io), 56 VCAP (power), 57 VDD (power), 58 RF0 (io), 59 RF1 (io), 60 RG1 (io), 61 RG0 (io), 62 RG14 (io), 63 RG12 (io), 64 RG13 (io)

## PIC24HJ64GP206AT-I/MR
designator U?
High Speed General Purpose 16-Bit Flash Microcontroller, 64KB Flash, 8KB RAM, 64-Pin QFN, Industrial Temperature, Tape and Reel; Manufacturer: Microchip; PartNumber: PIC24HJ64GP206AT-I/MR; DatasheetVersion: rev C, Mar-2011; PackageVersion: revBB, Aug-2009; PackageReference: QFN-MR64; PackageDescription: 64-Lead Plastic Quad Flat, No Lead Package (MR) - 9x9x0.9 mm Body [QFN]; Supplier 1: Digi-Key; Supplier Part Number 1: PIC24HJ64GP206AT-I/MR-ND; Supplier 2: Mouser; Supplier Part Number 2: 579-PIC24HJ64GP2TIMR; Mounting Technology: Surface Mount; ComponentLink1Description: Manufacturer URL; ComponentLink1URL: http://www.microchip.com/; ComponentLink2Description: Datasheet; ComponentLink2URL: http://ww1.microchip.com/downloads/en/DeviceDoc/70592B.pdf; ComponentLink3Description: Package Specification; ComponentLink3URL: http://www.microchip.com/stellent/groups/techpub_sg/documents/packagingspec/en012702.pdf
footprint QFN-MR64_N (QFN, 64-Leads, Body 9x9mm, Pitch 0.5mm, Thermal Pad 7.5x7.5mm, IPC Medium Density)
footprint QFN-MR64_L (QFN, 64-Leads, Body 9x9mm, Pitch 0.5mm, Thermal Pad 7.5x7.5mm, IPC High Density)
footprint QFN-MR64_M (QFN, 64-Leads, Body 9x9mm, Pitch 0.5mm, Thermal Pad 7.5x7.5mm, IPC Low Density)
pins: 1 RG15 (io), 2 AN16/T2CK/T7CK/RC1 (io), 3 AN17/T3CK/T6CK/RC2 (io), 4 SCK2/CN8/RG6 (io), 5 SDI2/CN9/RG7 (io), 6 SDO2/CN10/RG8 (io), 7 ~{MCLR} (in), 8 ~{SS2}/CN11/RG9 (io), 9 VSS (power), 10 VDD (power), 11 AN5/IC8/CN7/RB5 (io), 12 AN4/IC7/CN6/RB4 (io), 13 AN3/CN5/RB3 (io), 14 AN2/~{SS1}/CN4/RB2 (io), 15 PGEC3/AN1/VREF-/CN3/RB1 (io), 16 PGED3/AN0/VREF+/CN2/RB0 (io), 17 PGEC1/AN6/OCFA/RB6 (io), 18 PGED1/AN7/RB7 (io), 19 AVDD (power), 20 AVSS (power), 21 ~{U2CTS}/AN8/RB8 (io), 22 AN9/RB9 (io), 23 TMS/AN10/RB10 (io), 24 TDO/AN11/RB11 (io), 25 VSS (power), 26 VDD (power), 27 TCK/AN12/RB12 (io), 28 TDI/AN13/RB13 (io), 29 ~{U2RTS}/AN14/RB14 (io), 30 AN15/OCFB/CN12/RB15 (io), 31 U2RX/CN17/RF4 (io), 32 U2TX/CN18/RF5 (io), 33 U1TX/SDO1/RF3 (io), 34 U1RX/SDI1/RF2 (io), 35 ~{U1RTS}/SCK1/INT0/RF6 (io), 36 SDA1/RG3 (io), 37 SCL1/RG2 (io), 38 VDD (power), 39 OSC1/CLKIN/RC12 (io), 40 OSC2/CLKO/RC15 (io), 41 VSS (power), 42 IC1/INT1/RD8 (io), 43 IC2/~{U1CTS}/INT2/RD9 (io), 44 IC3/INT3/RD10 (io), 45 IC4/INT4/RD11 (io), 46 OC1/RD0 (io), 47 PGED2/SOSCI/T4CK/CN1/RC13 (io), 48 PGEC2/SOSCO/T1CK/CN0/RC14 (io), 49 OC2/RD1 (io), 50 OC3/RD2 (io), 51 OC4/RD3 (io), 52 OC5/IC5/CN13/RD4 (io), 53 OC6/IC6/CN14/RD5 (io), 54 OC7/CN15/RD6 (io), 55 OC8/CN16/RD7 (io), 56 VCAP (power), 57 VDD (power), 58 RF0 (io), 59 RF1 (io), 60 RG1 (io), 61 RG0 (io), 62 RG14 (io), 63 RG12 (io), 64 RG13 (io), 65 Thermal Pad

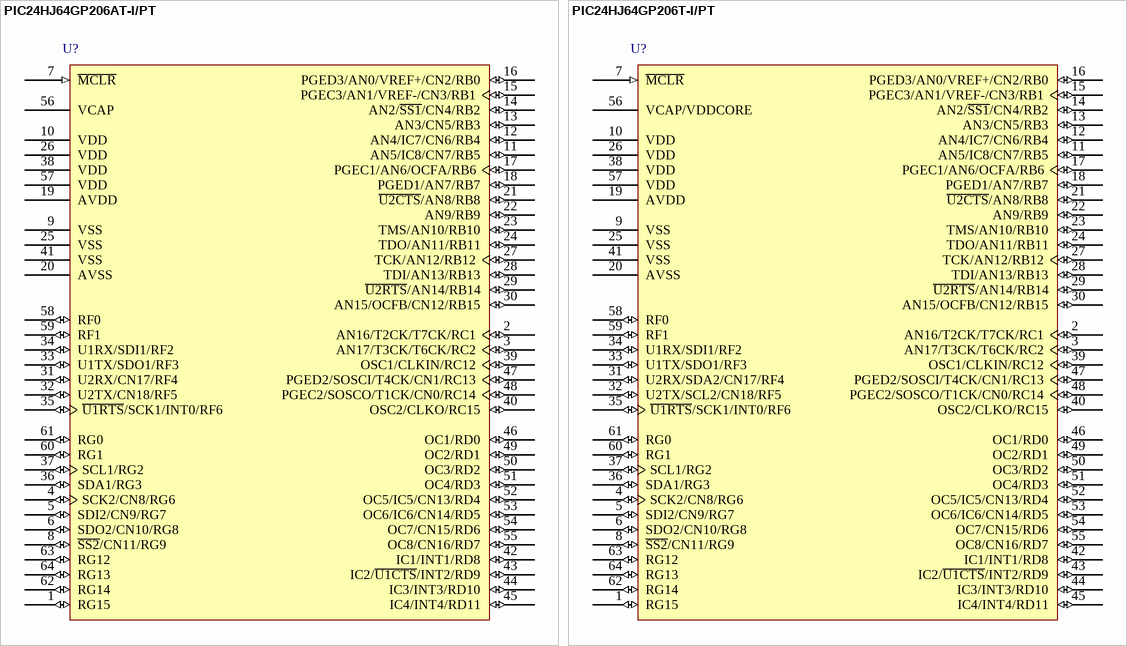
[diagram p15: symbols PIC24HJ64GP206AT-I/PT to PIC24HJ64GP206T-I/PT]

## PIC24HJ64GP206AT-I/PT
designator U?
High Speed General Purpose 16-Bit Flash Microcontroller, 64KB Flash, 8KB RAM, 64-Pin TQFP, Industrial Temperature, Tape and Reel; Manufacturer: Microchip; PartNumber: PIC24HJ64GP206AT-I/PT; DatasheetVersion: rev C, Mar-2011; PackageVersion: revBB, Aug-2009; PackageReference: TQFP-PT64; PackageDescription: 64-Lead Thin Plastic Quad Flat Pack (PT) - 10x10x1mm Body, 2.00mm [TQFP]; Supplier 1: Digi-Key; Supplier Part Number 1: PIC24HJ64GP206AT-I/PT-ND; Supplier 2: Mouser; Supplier Part Number 2: 579-HJ64GP206AT-I/PT; Mounting Technology: Surface Mount; Code_JEDEC: MS-026; ComponentLink1Description: Manufacturer URL; ComponentLink1URL: http://www.microchip.com/; ComponentLink2Description: Datasheet; ComponentLink2URL: http://ww1.microchip.com/downloads/en/DeviceDoc/70592B.pdf; ComponentLink3Description: Package Specification; ComponentLink3URL: http://www.microchip.com/stellent/groups/techpub_sg/documents/packagingspec/en012702.pdf
footprint TQFP-PT64_N (Thin QFP, 64-Leads, Body 10x10mm, Pitch 0.5mm, IPC Medium Density)
footprint TQFP-PT64_L (Thin QFP, 64-Leads, Body 10x10mm, Pitch 0.5mm, IPC High Density)
footprint TQFP-PT64_M (Thin QFP, 64-Leads, Body 10x10mm, Pitch 0.5mm, IPC Low Density)
pins: 1 RG15 (io), 2 AN16/T2CK/T7CK/RC1 (io), 3 AN17/T3CK/T6CK/RC2 (io), 4 SCK2/CN8/RG6 (io), 5 SDI2/CN9/RG7 (io), 6 SDO2/CN10/RG8 (io), 7 ~{MCLR} (in), 8 ~{SS2}/CN11/RG9 (io), 9 VSS (power), 10 VDD (power), 11 AN5/IC8/CN7/RB5 (io), 12 AN4/IC7/CN6/RB4 (io), 13 AN3/CN5/RB3 (io), 14 AN2/~{SS1}/CN4/RB2 (io), 15 PGEC3/AN1/VREF-/CN3/RB1 (io), 16 PGED3/AN0/VREF+/CN2/RB0 (io), 17 PGEC1/AN6/OCFA/RB6 (io), 18 PGED1/AN7/RB7 (io), 19 AVDD (power), 20 AVSS (power), 21 ~{U2CTS}/AN8/RB8 (io), 22 AN9/RB9 (io), 23 TMS/AN10/RB10 (io), 24 TDO/AN11/RB11 (io), 25 VSS (power), 26 VDD (power), 27 TCK/AN12/RB12 (io), 28 TDI/AN13/RB13 (io), 29 ~{U2RTS}/AN14/RB14 (io), 30 AN15/OCFB/CN12/RB15 (io), 31 U2RX/CN17/RF4 (io), 32 U2TX/CN18/RF5 (io), 33 U1TX/SDO1/RF3 (io), 34 U1RX/SDI1/RF2 (io), 35 ~{U1RTS}/SCK1/INT0/RF6 (io), 36 SDA1/RG3 (io), 37 SCL1/RG2 (io), 38 VDD (power), 39 OSC1/CLKIN/RC12 (io), 40 OSC2/CLKO/RC15 (io), 41 VSS (power), 42 IC1/INT1/RD8 (io), 43 IC2/~{U1CTS}/INT2/RD9 (io), 44 IC3/INT3/RD10 (io), 45 IC4/INT4/RD11 (io), 46 OC1/RD0 (io), 47 PGED2/SOSCI/T4CK/CN1/RC13 (io), 48 PGEC2/SOSCO/T1CK/CN0/RC14 (io), 49 OC2/RD1 (io), 50 OC3/RD2 (io), 51 OC4/RD3 (io), 52 OC5/IC5/CN13/RD4 (io), 53 OC6/IC6/CN14/RD5 (io), 54 OC7/CN15/RD6 (io), 55 OC8/CN16/RD7 (io), 56 VCAP (power), 57 VDD (power), 58 RF0 (io), 59 RF1 (io), 60 RG1 (io), 61 RG0 (io), 62 RG14 (io), 63 RG12 (io), 64 RG13 (io)

## PIC24HJ64GP206T-I/PT
designator U?
High Speed General Purpose 16-Bit Flash Microcontroller, 64KB Flash, 8KB RAM, 64-Pin TQFP, Industrial Temperature, Tape and Reel; Manufacturer: Microchip; PartNumber: PIC24HJ64GP206T-I/PT; DatasheetVersion: revH, Mar-2009; PackageVersion: revBB, Aug-2009; PackageReference: TQFP-PT64; PackageDescription: 64-Lead Thin Plastic Quad Flat Pack (PT) - 10x10x1mm Body, 2.00mm [TQFP]; Supplier 1: Digi-Key; Supplier Part Number 1: PIC24HJ64GP206T-I/PT-ND; Supplier 2: Mouser; Supplier Part Number 2: 579-24HJ64GP206TIPT; Mounting Technology: Surface Mount; Code_JEDEC: MS-026; ComponentLink1Description: Manufacturer URL; ComponentLink1URL: http://www.microchip.com/; ComponentLink2Description: Datasheet; ComponentLink2URL: http://ww1.microchip.com/downloads/en/DeviceDoc/70175H.pdf; ComponentLink3Description: Package Specification; ComponentLink3URL: http://www.microchip.com/stellent/groups/techpub_sg/documents/packagingspec/en012702.pdf
footprint TQFP-PT64_N (Thin QFP, 64-Leads, Body 10x10mm, Pitch 0.5mm, IPC Medium Density)
footprint TQFP-PT64_L (Thin QFP, 64-Leads, Body 10x10mm, Pitch 0.5mm, IPC High Density)
footprint TQFP-PT64_M (Thin QFP, 64-Leads, Body 10x10mm, Pitch 0.5mm, IPC Low Density)
pins: 1 RG15 (io), 2 AN16/T2CK/T7CK/RC1 (io), 3 AN17/T3CK/T6CK/RC2 (io), 4 SCK2/CN8/RG6 (io), 5 SDI2/CN9/RG7 (io), 6 SDO2/CN10/RG8 (io), 7 ~{MCLR} (in), 8 ~{SS2}/CN11/RG9 (io), 9 VSS (power), 10 VDD (power), 11 AN5/IC8/CN7/RB5 (io), 12 AN4/IC7/CN6/RB4 (io), 13 AN3/CN5/RB3 (io), 14 AN2/~{SS1}/CN4/RB2 (io), 15 PGEC3/AN1/VREF-/CN3/RB1 (io), 16 PGED3/AN0/VREF+/CN2/RB0 (io), 17 PGEC1/AN6/OCFA/RB6 (io), 18 PGED1/AN7/RB7 (io), 19 AVDD (power), 20 AVSS (power), 21 ~{U2CTS}/AN8/RB8 (io), 22 AN9/RB9 (io), 23 TMS/AN10/RB10 (io), 24 TDO/AN11/RB11 (io), 25 VSS (power), 26 VDD (power), 27 TCK/AN12/RB12 (io), 28 TDI/AN13/RB13 (io), 29 ~{U2RTS}/AN14/RB14 (io), 30 AN15/OCFB/CN12/RB15 (io), 31 U2RX/SDA2/CN17/RF4 (io), 32 U2TX/SCL2/CN18/RF5 (io), 33 U1TX/SDO1/RF3 (io), 34 U1RX/SDI1/RF2 (io), 35 ~{U1RTS}/SCK1/INT0/RF6 (io), 36 SDA1/RG3 (io), 37 SCL1/RG2 (io), 38 VDD (power), 39 OSC1/CLKIN/RC12 (io), 40 OSC2/CLKO/RC15 (io), 41 VSS (power), 42 IC1/INT1/RD8 (io), 43 IC2/~{U1CTS}/INT2/RD9 (io), 44 IC3/INT3/RD10 (io), 45 IC4/INT4/RD11 (io), 46 OC1/RD0 (io), 47 PGED2/SOSCI/T4CK/CN1/RC13 (io), 48 PGEC2/SOSCO/T1CK/CN0/RC14 (io), 49 OC2/RD1 (io), 50 OC3/RD2 (io), 51 OC4/RD3 (io), 52 OC5/IC5/CN13/RD4 (io), 53 OC6/IC6/CN14/RD5 (io), 54 OC7/CN15/RD6 (io), 55 OC8/CN16/RD7 (io), 56 VCAP/VDDCORE (power), 57 VDD (power), 58 RF0 (io), 59 RF1 (io), 60 RG1 (io), 61 RG0 (io), 62 RG14 (io), 63 RG12 (io), 64 RG13 (io)

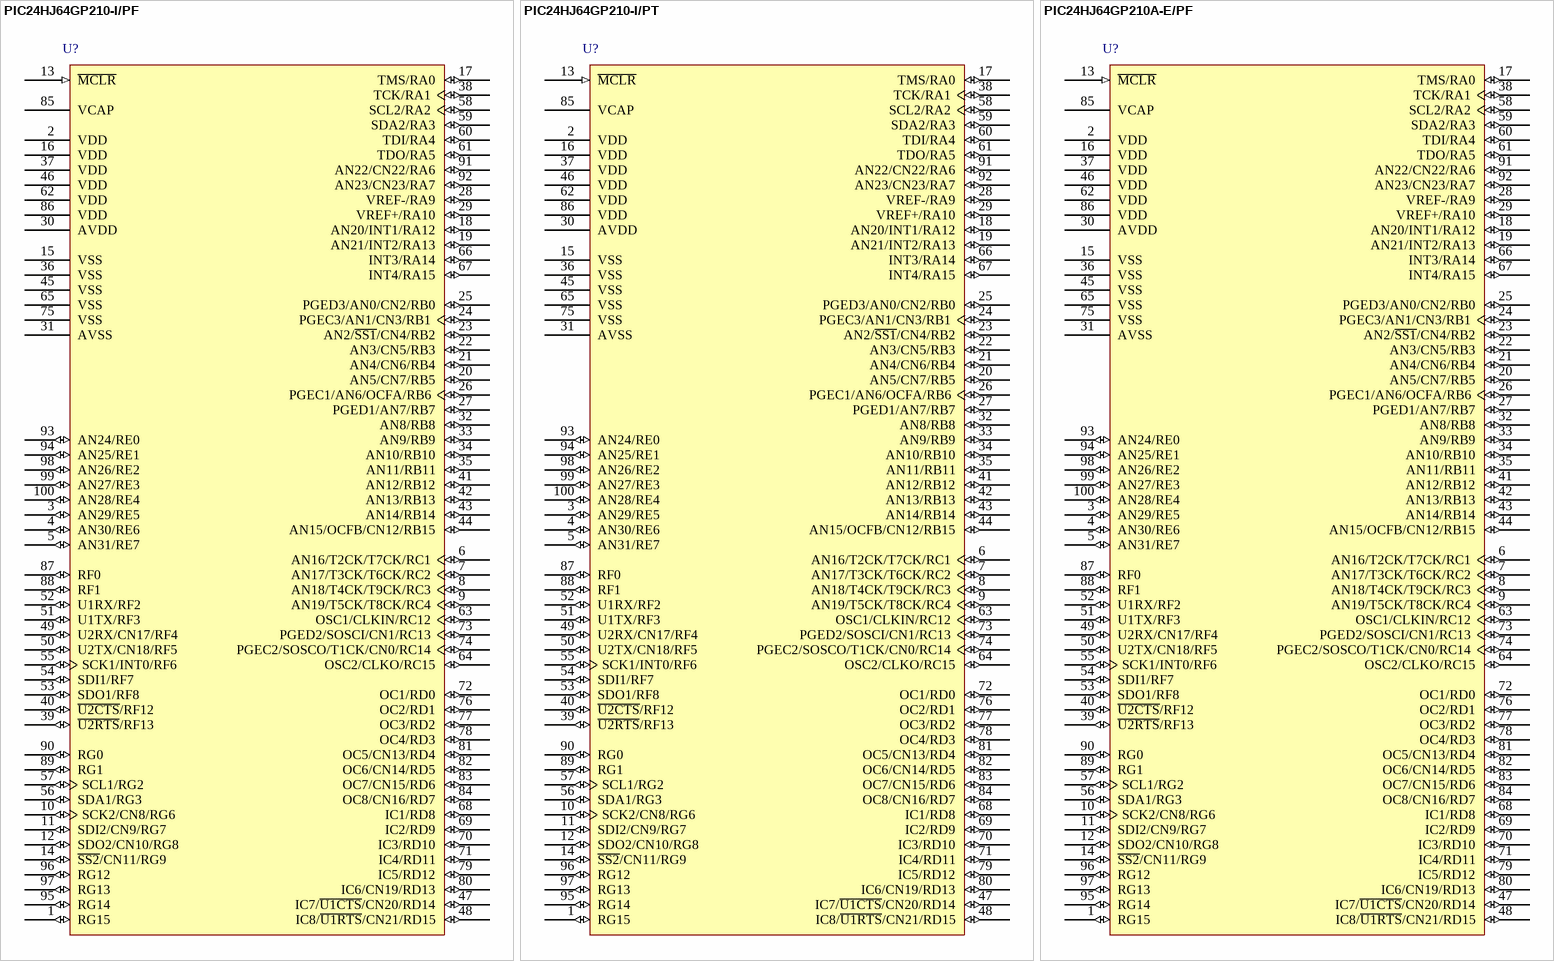
[diagram p16: symbols PIC24HJ64GP210-I/PF to PIC24HJ64GP210A-E/PF]

## PIC24HJ64GP210-I/PF
designator U?
High Speed General Purpose 16-Bit Flash Microcontroller, 64KB Flash, 8KB RAM, 100-Pin TQFP, Industrial Temperature; Manufacturer: Microchip; PartNumber: PIC24HJ64GP210-I/PF; DatasheetVersion: revH, Mar-2009; PackageVersion: revBB, Aug-2009; PackageReference: TQFP-PF100; PackageDescription: 100-Lead Thin Plastic Quad Flat Pack (PF) - 14x14x1mm Body, 2.00mm [TQFP]; Supplier 1: Digi-Key; Supplier Part Number 1: PIC24HJ64GP210-I/PF-ND; Supplier 2: Farnell; Supplier Part Number 2: 1146549MPKG; Supplier 3: Farnell; Supplier Part Number 3: 1146549; Supplier 4: Newark; Supplier Part Number 4: 74K8646; Supplier 5: Mouser; Supplier Part Number 5: 579-24HJ64GP210IPF; Mounting Technology: Surface Mount; ComponentLink1Description: Manufacturer URL; ComponentLink1URL: http://www.microchip.com/; ComponentLink2Description: Datasheet; ComponentLink2URL: http://ww1.microchip.com/downloads/en/DeviceDoc/70175H.pdf; ComponentLink3Description: Package Specification; ComponentLink3URL: http://www.microchip.com/stellent/groups/techpub_sg/documents/packagingspec/en012702.pdf
footprint TQFP-PF100_N (Thin QFP, 100-Leads, Body 14x14mm, Pitch 0.5mm, IPC Medium Density)
footprint TQFP-PF100_L (Thin QFP, 100-Leads, Body 14x14mm, Pitch 0.5mm, IPC High Density)
footprint TQFP-PF100_M (Thin QFP, 100-Leads, Body 14x14mm, Pitch 0.5mm, IPC Low Density)
pins: 1 RG15 (io), 2 VDD (power), 3 AN29/RE5 (io), 4 AN30/RE6 (io), 5 AN31/RE7 (io), 6 AN16/T2CK/T7CK/RC1 (io), 7 AN17/T3CK/T6CK/RC2 (io), 8 AN18/T4CK/T9CK/RC3 (io), 9 AN19/T5CK/T8CK/RC4 (io), 10 SCK2/CN8/RG6 (io), 11 SDI2/CN9/RG7 (io), 12 SDO2/CN10/RG8 (io), 13 ~{MCLR} (in), 14 ~{SS2}/CN11/RG9 (io), 15 VSS (power), 16 VDD (power), 17 TMS/RA0 (io), 18 AN20/INT1/RA12 (io), 19 AN21/INT2/RA13 (io), 20 AN5/CN7/RB5 (io), 21 AN4/CN6/RB4 (io), 22 AN3/CN5/RB3 (io), 23 AN2/~{SS1}/CN4/RB2 (io), 24 PGEC3/AN1/CN3/RB1 (io), 25 PGED3/AN0/CN2/RB0 (io), 26 PGEC1/AN6/OCFA/RB6 (io), 27 PGED1/AN7/RB7 (io), 28 VREF-/RA9 (io), 29 VREF+/RA10 (io), 30 AVDD (power), 31 AVSS (power), 32 AN8/RB8 (io), 33 AN9/RB9 (io), 34 AN10/RB10 (io), 35 AN11/RB11 (io), 36 VSS (power), 37 VDD (power), 38 TCK/RA1 (io), 39 ~{U2RTS}/RF13 (io), 40 ~{U2CTS}/RF12 (io), 41 AN12/RB12 (io), 42 AN13/RB13 (io), 43 AN14/RB14 (io), 44 AN15/OCFB/CN12/RB15 (io), 45 VSS (power), 46 VDD (power), 47 IC7/~{U1CTS}/CN20/RD14 (io), 48 IC8/~{U1RTS}/CN21/RD15 (io), 49 U2RX/CN17/RF4 (io), 50 U2TX/CN18/RF5 (io), 51 U1TX/RF3 (io), 52 U1RX/RF2 (io), 53 SDO1/RF8 (io), 54 SDI1/RF7 (io), 55 SCK1/INT0/RF6 (io), 56 SDA1/RG3 (io), 57 SCL1/RG2 (io), 58 SCL2/RA2 (io), 59 SDA2/RA3 (io), 60 TDI/RA4 (io), 61 TDO/RA5 (io), 62 VDD (power), 63 OSC1/CLKIN/RC12 (io), 64 OSC2/CLKO/RC15 (io), 65 VSS (power), 66 INT3/RA14 (io), 67 INT4/RA15 (io), 68 IC1/RD8 (io), 69 IC2/RD9 (io), 70 IC3/RD10 (io), 71 IC4/RD11 (io), 72 OC1/RD0 (io), 73 PGED2/SOSCI/CN1/RC13 (io), 74 PGEC2/SOSCO/T1CK/CN0/RC14 (io), 75 VSS (power), 76 OC2/RD1 (io), 77 OC3/RD2 (io), 78 OC4/RD3 (io), 79 IC5/RD12 (io), 80 IC6/CN19/RD13 (io), 81 OC5/CN13/RD4 (io), 82 OC6/CN14/RD5 (io), 83 OC7/CN15/RD6 (io), 84 OC8/CN16/RD7 (io), 85 VCAP (power), 86 VDD (power), 87 RF0 (io), 88 RF1 (io), 89 RG1 (io), 90 RG0 (io), 91 AN22/CN22/RA6 (io), 92 AN23/CN23/RA7 (io), 93 AN24/RE0 (io), 94 AN25/RE1 (io), 95 RG14 (io), 96 RG12 (io), 97 RG13 (io), 98 AN26/RE2 (io), 99 AN27/RE3 (io), 100 AN28/RE4 (io)

## PIC24HJ64GP210-I/PT
designator U?
High Speed General Purpose 16-Bit Flash Microcontroller, 64KB Flash, 8KB RAM, 100-Pin TQFP, Industrial Temperature; Manufacturer: Microchip; PartNumber: PIC24HJ64GP210-I/PT; DatasheetVersion: revH, Mar-2009; PackageVersion: revBB, Aug-2009; PackageReference: TQFP-PT100; PackageDescription: 100-Lead Plastic Thin Quad Flatpack (PT) - 12x12x1mm Body, 2.00mm [TQFP]; Supplier 1: Digi-Key; Supplier Part Number 1: PIC24HJ64GP210-I/PT-ND; Supplier 2: Mouser; Supplier Part Number 2: 579-24HJ64GP210IPT; Mounting Technology: Surface Mount; ComponentLink1Description: Manufacturer URL; ComponentLink1URL: http://www.microchip.com/; ComponentLink2Description: Datasheet; ComponentLink2URL: http://ww1.microchip.com/downloads/en/DeviceDoc/70175H.pdf; ComponentLink3Description: Package Specification; ComponentLink3URL: http://www.microchip.com/stellent/groups/techpub_sg/documents/packagingspec/en012702.pdf
footprint TQFP-PT100_N (Thin QFP, 100-Leads, Body 12x12mm, Pitch 0.4mm, IPC Medium Density)
footprint TQFP-PT100_L (Thin QFP, 100-Leads, Body 12x12mm, Pitch 0.4mm, IPC High Density)
footprint TQFP-PT100_M (Thin QFP, 100-Leads, Body 12x12mm, Pitch 0.4mm, IPC Low Density)
pins: 1 RG15 (io), 2 VDD (power), 3 AN29/RE5 (io), 4 AN30/RE6 (io), 5 AN31/RE7 (io), 6 AN16/T2CK/T7CK/RC1 (io), 7 AN17/T3CK/T6CK/RC2 (io), 8 AN18/T4CK/T9CK/RC3 (io), 9 AN19/T5CK/T8CK/RC4 (io), 10 SCK2/CN8/RG6 (io), 11 SDI2/CN9/RG7 (io), 12 SDO2/CN10/RG8 (io), 13 ~{MCLR} (in), 14 ~{SS2}/CN11/RG9 (io), 15 VSS (power), 16 VDD (power), 17 TMS/RA0 (io), 18 AN20/INT1/RA12 (io), 19 AN21/INT2/RA13 (io), 20 AN5/CN7/RB5 (io), 21 AN4/CN6/RB4 (io), 22 AN3/CN5/RB3 (io), 23 AN2/~{SS1}/CN4/RB2 (io), 24 PGEC3/AN1/CN3/RB1 (io), 25 PGED3/AN0/CN2/RB0 (io), 26 PGEC1/AN6/OCFA/RB6 (io), 27 PGED1/AN7/RB7 (io), 28 VREF-/RA9 (io), 29 VREF+/RA10 (io), 30 AVDD (power), 31 AVSS (power), 32 AN8/RB8 (io), 33 AN9/RB9 (io), 34 AN10/RB10 (io), 35 AN11/RB11 (io), 36 VSS (power), 37 VDD (power), 38 TCK/RA1 (io), 39 ~{U2RTS}/RF13 (io), 40 ~{U2CTS}/RF12 (io), 41 AN12/RB12 (io), 42 AN13/RB13 (io), 43 AN14/RB14 (io), 44 AN15/OCFB/CN12/RB15 (io), 45 VSS (power), 46 VDD (power), 47 IC7/~{U1CTS}/CN20/RD14 (io), 48 IC8/~{U1RTS}/CN21/RD15 (io), 49 U2RX/CN17/RF4 (io), 50 U2TX/CN18/RF5 (io), 51 U1TX/RF3 (io), 52 U1RX/RF2 (io), 53 SDO1/RF8 (io), 54 SDI1/RF7 (io), 55 SCK1/INT0/RF6 (io), 56 SDA1/RG3 (io), 57 SCL1/RG2 (io), 58 SCL2/RA2 (io), 59 SDA2/RA3 (io), 60 TDI/RA4 (io), 61 TDO/RA5 (io), 62 VDD (power), 63 OSC1/CLKIN/RC12 (io), 64 OSC2/CLKO/RC15 (io), 65 VSS (power), 66 INT3/RA14 (io), 67 INT4/RA15 (io), 68 IC1/RD8 (io), 69 IC2/RD9 (io), 70 IC3/RD10 (io), 71 IC4/RD11 (io), 72 OC1/RD0 (io), 73 PGED2/SOSCI/CN1/RC13 (io), 74 PGEC2/SOSCO/T1CK/CN0/RC14 (io), 75 VSS (power), 76 OC2/RD1 (io), 77 OC3/RD2 (io), 78 OC4/RD3 (io), 79 IC5/RD12 (io), 80 IC6/CN19/RD13 (io), 81 OC5/CN13/RD4 (io), 82 OC6/CN14/RD5 (io), 83 OC7/CN15/RD6 (io), 84 OC8/CN16/RD7 (io), 85 VCAP (power), 86 VDD (power), 87 RF0 (io), 88 RF1 (io), 89 RG1 (io), 90 RG0 (io), 91 AN22/CN22/RA6 (io), 92 AN23/CN23/RA7 (io), 93 AN24/RE0 (io), 94 AN25/RE1 (io), 95 RG14 (io), 96 RG12 (io), 97 RG13 (io), 98 AN26/RE2 (io), 99 AN27/RE3 (io), 100 AN28/RE4 (io)

## PIC24HJ64GP210A-E/PF
designator U?
High Speed General Purpose 16-Bit Flash Microcontroller, 64KB Flash, 8KB RAM, 100-Pin TQFP, Extended Temperature; Manufacturer: Microchip; PartNumber: PIC24HJ64GP210A-E/PF; DatasheetVersion: rev C, Mar-2011; PackageVersion: revBB, Aug-2009; PackageReference: TQFP-PF100; PackageDescription: 100-Lead Thin Plastic Quad Flat Pack (PF) - 14x14x1mm Body, 2.00mm [TQFP]; Supplier 1: Digi-Key; Supplier Part Number 1: PIC24HJ64GP210A-E/PF-ND; Supplier 2: Mouser; Supplier Part Number 2: 579-HJ64GP210A-E/PF; Mounting Technology: Surface Mount; ComponentLink1Description: Manufacturer URL; ComponentLink1URL: http://www.microchip.com/; ComponentLink2Description: Datasheet; ComponentLink2URL: http://ww1.microchip.com/downloads/en/DeviceDoc/70592B.pdf; ComponentLink3Description: Package Specification; ComponentLink3URL: http://www.microchip.com/stellent/groups/techpub_sg/documents/packagingspec/en012702.pdf
footprint TQFP-PF100_N (Thin QFP, 100-Leads, Body 14x14mm, Pitch 0.5mm, IPC Medium Density)
footprint TQFP-PF100_L (Thin QFP, 100-Leads, Body 14x14mm, Pitch 0.5mm, IPC High Density)
footprint TQFP-PF100_M (Thin QFP, 100-Leads, Body 14x14mm, Pitch 0.5mm, IPC Low Density)
pins: 1 RG15 (io), 2 VDD (power), 3 AN29/RE5 (io), 4 AN30/RE6 (io), 5 AN31/RE7 (io), 6 AN16/T2CK/T7CK/RC1 (io), 7 AN17/T3CK/T6CK/RC2 (io), 8 AN18/T4CK/T9CK/RC3 (io), 9 AN19/T5CK/T8CK/RC4 (io), 10 SCK2/CN8/RG6 (io), 11 SDI2/CN9/RG7 (io), 12 SDO2/CN10/RG8 (io), 13 ~{MCLR} (in), 14 ~{SS2}/CN11/RG9 (io), 15 VSS (power), 16 VDD (power), 17 TMS/RA0 (io), 18 AN20/INT1/RA12 (io), 19 AN21/INT2/RA13 (io), 20 AN5/CN7/RB5 (io), 21 AN4/CN6/RB4 (io), 22 AN3/CN5/RB3 (io), 23 AN2/~{SS1}/CN4/RB2 (io), 24 PGEC3/AN1/CN3/RB1 (io), 25 PGED3/AN0/CN2/RB0 (io), 26 PGEC1/AN6/OCFA/RB6 (io), 27 PGED1/AN7/RB7 (io), 28 VREF-/RA9 (io), 29 VREF+/RA10 (io), 30 AVDD (power), 31 AVSS (power), 32 AN8/RB8 (io), 33 AN9/RB9 (io), 34 AN10/RB10 (io), 35 AN11/RB11 (io), 36 VSS (power), 37 VDD (power), 38 TCK/RA1 (io), 39 ~{U2RTS}/RF13 (io), 40 ~{U2CTS}/RF12 (io), 41 AN12/RB12 (io), 42 AN13/RB13 (io), 43 AN14/RB14 (io), 44 AN15/OCFB/CN12/RB15 (io), 45 VSS (power), 46 VDD (power), 47 IC7/~{U1CTS}/CN20/RD14 (io), 48 IC8/~{U1RTS}/CN21/RD15 (io), 49 U2RX/CN17/RF4 (io), 50 U2TX/CN18/RF5 (io), 51 U1TX/RF3 (io), 52 U1RX/RF2 (io), 53 SDO1/RF8 (io), 54 SDI1/RF7 (io), 55 SCK1/INT0/RF6 (io), 56 SDA1/RG3 (io), 57 SCL1/RG2 (io), 58 SCL2/RA2 (io), 59 SDA2/RA3 (io), 60 TDI/RA4 (io), 61 TDO/RA5 (io), 62 VDD (power), 63 OSC1/CLKIN/RC12 (io), 64 OSC2/CLKO/RC15 (io), 65 VSS (power), 66 INT3/RA14 (io), 67 INT4/RA15 (io), 68 IC1/RD8 (io), 69 IC2/RD9 (io), 70 IC3/RD10 (io), 71 IC4/RD11 (io), 72 OC1/RD0 (io), 73 PGED2/SOSCI/CN1/RC13 (io), 74 PGEC2/SOSCO/T1CK/CN0/RC14 (io), 75 VSS (power), 76 OC2/RD1 (io), 77 OC3/RD2 (io), 78 OC4/RD3 (io), 79 IC5/RD12 (io), 80 IC6/CN19/RD13 (io), 81 OC5/CN13/RD4 (io), 82 OC6/CN14/RD5 (io), 83 OC7/CN15/RD6 (io), 84 OC8/CN16/RD7 (io), 85 VCAP (power), 86 VDD (power), 87 RF0 (io), 88 RF1 (io), 89 RG1 (io), 90 RG0 (io), 91 AN22/CN22/RA6 (io), 92 AN23/CN23/RA7 (io), 93 AN24/RE0 (io), 94 AN25/RE1 (io), 95 RG14 (io), 96 RG12 (io), 97 RG13 (io), 98 AN26/RE2 (io), 99 AN27/RE3 (io), 100 AN28/RE4 (io)

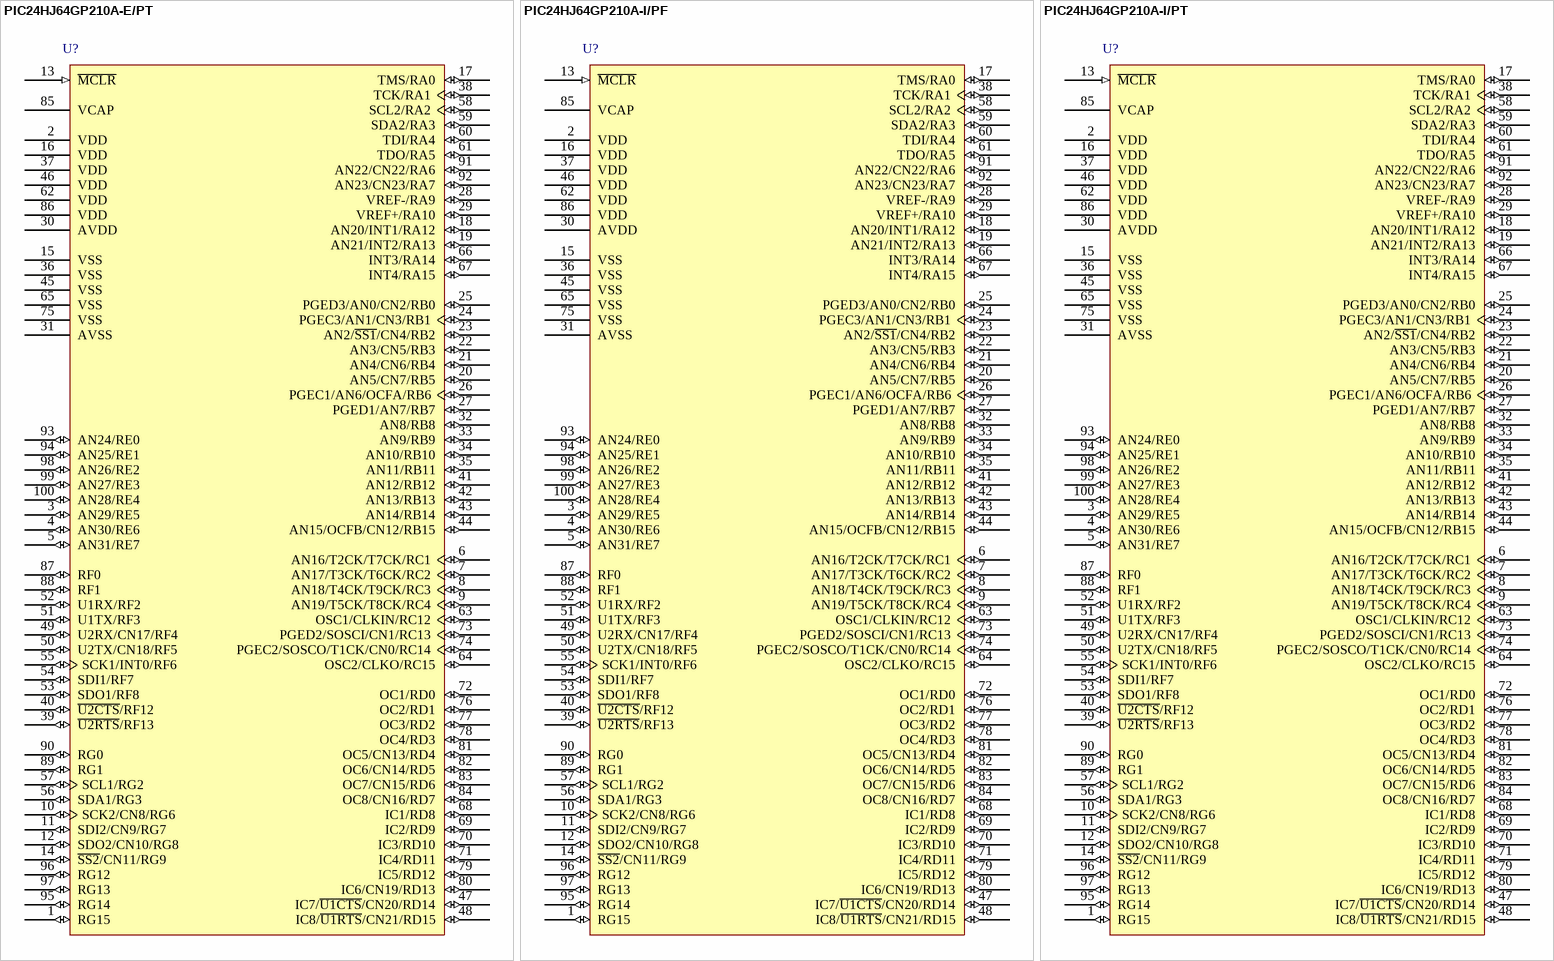
[diagram p17: symbols PIC24HJ64GP210A-E/PT to PIC24HJ64GP210A-I/PT]

## PIC24HJ64GP210A-E/PT
designator U?
High Speed General Purpose 16-Bit Flash Microcontroller, 64KB Flash, 8KB RAM, 100-Pin TQFP, Extended Temperature; Manufacturer: Microchip; PartNumber: PIC24HJ64GP210A-E/PT; DatasheetVersion: rev C, Mar-2011; PackageVersion: revBB, Aug-2009; PackageReference: TQFP-PT100; PackageDescription: 100-Lead Plastic Thin Quad Flatpack (PT) - 12x12x1mm Body, 2.00mm [TQFP]; Supplier 1: Digi-Key; Supplier Part Number 1: PIC24HJ64GP210A-E/PT-ND; Supplier 2: Mouser; Supplier Part Number 2: 579-HJ64GP210A-E/PT; Mounting Technology: Surface Mount; ComponentLink1Description: Manufacturer URL; ComponentLink1URL: http://www.microchip.com/; ComponentLink2Description: Datasheet; ComponentLink2URL: http://ww1.microchip.com/downloads/en/DeviceDoc/70592B.pdf; ComponentLink3Description: Package Specification; ComponentLink3URL: http://www.microchip.com/stellent/groups/techpub_sg/documents/packagingspec/en012702.pdf
footprint TQFP-PT100_N (Thin QFP, 100-Leads, Body 12x12mm, Pitch 0.4mm, IPC Medium Density)
footprint TQFP-PT100_L (Thin QFP, 100-Leads, Body 12x12mm, Pitch 0.4mm, IPC High Density)
footprint TQFP-PT100_M (Thin QFP, 100-Leads, Body 12x12mm, Pitch 0.4mm, IPC Low Density)
pins: 1 RG15 (io), 2 VDD (power), 3 AN29/RE5 (io), 4 AN30/RE6 (io), 5 AN31/RE7 (io), 6 AN16/T2CK/T7CK/RC1 (io), 7 AN17/T3CK/T6CK/RC2 (io), 8 AN18/T4CK/T9CK/RC3 (io), 9 AN19/T5CK/T8CK/RC4 (io), 10 SCK2/CN8/RG6 (io), 11 SDI2/CN9/RG7 (io), 12 SDO2/CN10/RG8 (io), 13 ~{MCLR} (in), 14 ~{SS2}/CN11/RG9 (io), 15 VSS (power), 16 VDD (power), 17 TMS/RA0 (io), 18 AN20/INT1/RA12 (io), 19 AN21/INT2/RA13 (io), 20 AN5/CN7/RB5 (io), 21 AN4/CN6/RB4 (io), 22 AN3/CN5/RB3 (io), 23 AN2/~{SS1}/CN4/RB2 (io), 24 PGEC3/AN1/CN3/RB1 (io), 25 PGED3/AN0/CN2/RB0 (io), 26 PGEC1/AN6/OCFA/RB6 (io), 27 PGED1/AN7/RB7 (io), 28 VREF-/RA9 (io), 29 VREF+/RA10 (io), 30 AVDD (power), 31 AVSS (power), 32 AN8/RB8 (io), 33 AN9/RB9 (io), 34 AN10/RB10 (io), 35 AN11/RB11 (io), 36 VSS (power), 37 VDD (power), 38 TCK/RA1 (io), 39 ~{U2RTS}/RF13 (io), 40 ~{U2CTS}/RF12 (io), 41 AN12/RB12 (io), 42 AN13/RB13 (io), 43 AN14/RB14 (io), 44 AN15/OCFB/CN12/RB15 (io), 45 VSS (power), 46 VDD (power), 47 IC7/~{U1CTS}/CN20/RD14 (io), 48 IC8/~{U1RTS}/CN21/RD15 (io), 49 U2RX/CN17/RF4 (io), 50 U2TX/CN18/RF5 (io), 51 U1TX/RF3 (io), 52 U1RX/RF2 (io), 53 SDO1/RF8 (io), 54 SDI1/RF7 (io), 55 SCK1/INT0/RF6 (io), 56 SDA1/RG3 (io), 57 SCL1/RG2 (io), 58 SCL2/RA2 (io), 59 SDA2/RA3 (io), 60 TDI/RA4 (io), 61 TDO/RA5 (io), 62 VDD (power), 63 OSC1/CLKIN/RC12 (io), 64 OSC2/CLKO/RC15 (io), 65 VSS (power), 66 INT3/RA14 (io), 67 INT4/RA15 (io), 68 IC1/RD8 (io), 69 IC2/RD9 (io), 70 IC3/RD10 (io), 71 IC4/RD11 (io), 72 OC1/RD0 (io), 73 PGED2/SOSCI/CN1/RC13 (io), 74 PGEC2/SOSCO/T1CK/CN0/RC14 (io), 75 VSS (power), 76 OC2/RD1 (io), 77 OC3/RD2 (io), 78 OC4/RD3 (io), 79 IC5/RD12 (io), 80 IC6/CN19/RD13 (io), 81 OC5/CN13/RD4 (io), 82 OC6/CN14/RD5 (io), 83 OC7/CN15/RD6 (io), 84 OC8/CN16/RD7 (io), 85 VCAP (power), 86 VDD (power), 87 RF0 (io), 88 RF1 (io), 89 RG1 (io), 90 RG0 (io), 91 AN22/CN22/RA6 (io), 92 AN23/CN23/RA7 (io), 93 AN24/RE0 (io), 94 AN25/RE1 (io), 95 RG14 (io), 96 RG12 (io), 97 RG13 (io), 98 AN26/RE2 (io), 99 AN27/RE3 (io), 100 AN28/RE4 (io)